# Altium schematic symbol library GRIPPER2009_Library.SchLib: 154 symbols
Pins are listed as number, name and electrical type; pins without a type are passive.

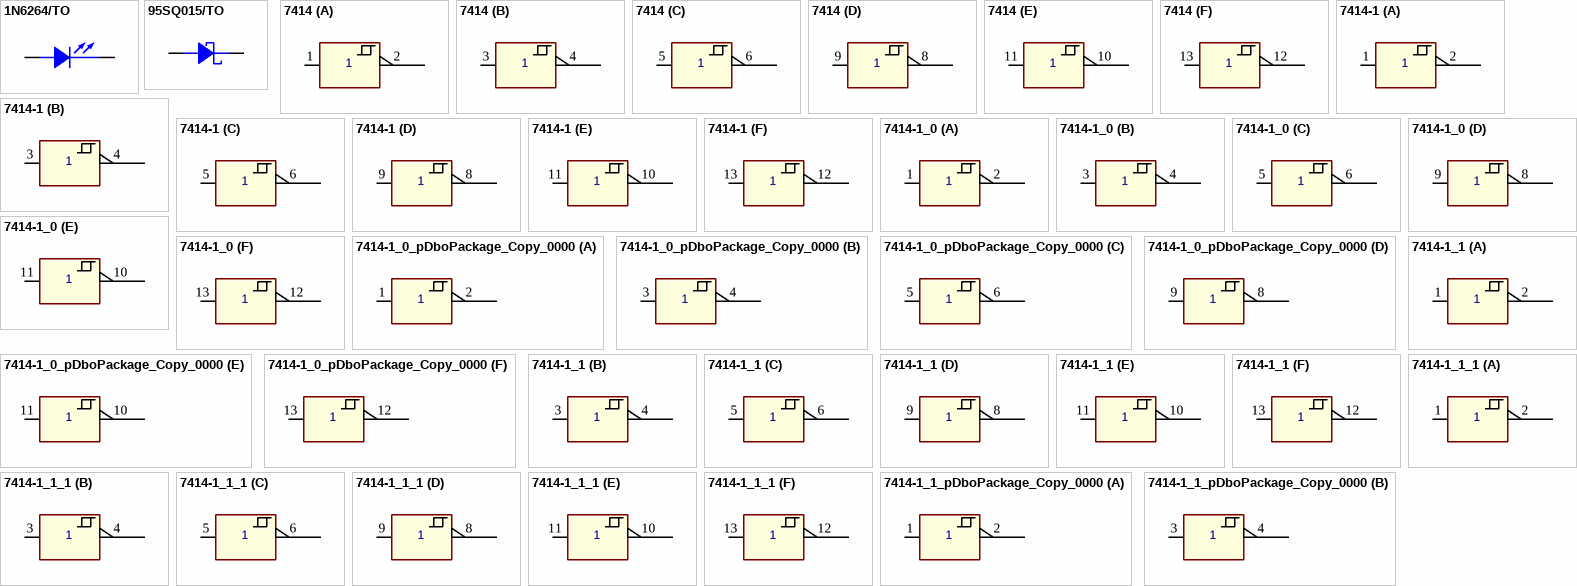
[diagram p0: symbols 1N6264/TO to 7414-1_1_pDboPackage_Copy_0000]

## 1N6264/TO
designator D?
pins: 1 CATHODE, 3 ANODE

## 95SQ015/TO
designator D?
pins: 1 ANODE, 2 CATHODE

## 7414
designator IC?
part A pins: 1 6A, 2 6Y, 7 GND (power) hidden to GND, 14 VCC (power) hidden to VCC
part B pins: 3 6A, 4 6Y, 7 GND (power) hidden to GND, 14 VCC (power) hidden to VCC
part C pins: 5 6A, 6 6Y, 7 GND (power) hidden to GND, 14 VCC (power) hidden to VCC
part D pins: 7 GND (power) hidden to GND, 8 6Y, 9 6A, 14 VCC (power) hidden to VCC
part E pins: 7 GND (power) hidden to GND, 10 6Y, 11 6A, 14 VCC (power) hidden to VCC
part F pins: 7 GND (power) hidden to GND, 12 6Y, 13 6A, 14 VCC (power) hidden to VCC

## 7414-1
designator IC?
part A pins: 1 6A, 2 6Y, 7 GND (power) hidden to GND, 14 VCC (power) hidden to VCC
part B pins: 3 6A, 4 6Y, 7 GND (power) hidden to GND, 14 VCC (power) hidden to VCC
part C pins: 5 6A, 6 6Y, 7 GND (power) hidden to GND, 14 VCC (power) hidden to VCC
part D pins: 7 GND (power) hidden to GND, 8 6Y, 9 6A, 14 VCC (power) hidden to VCC
part E pins: 7 GND (power) hidden to GND, 10 6Y, 11 6A, 14 VCC (power) hidden to VCC
part F pins: 7 GND (power) hidden to GND, 12 6Y, 13 6A, 14 VCC (power) hidden to VCC

## 7414-1_0
designator IC?
part A pins: 1 6A, 2 6Y, 7 GND (power) hidden to GND, 14 +5V (power) hidden to +5V
part B pins: 3 6A, 4 6Y, 7 GND (power) hidden to GND, 14 +5V (power) hidden to +5V
part C pins: 5 6A, 6 6Y, 7 GND (power) hidden to GND, 14 +5V (power) hidden to +5V
part D pins: 7 GND (power) hidden to GND, 8 6Y, 9 6A, 14 +5V (power) hidden to +5V
part E pins: 7 GND (power) hidden to GND, 10 6Y, 11 6A, 14 +5V (power) hidden to +5V
part F pins: 7 GND (power) hidden to GND, 12 6Y, 13 6A, 14 +5V (power) hidden to +5V

## 7414-1_0_pDboPackage_Copy_0000
designator IC?
part A pins: 1 6A, 2 6Y, 7 GND (power) hidden to GND, 14 VCC (power) hidden to VCC
part B pins: 3 6A, 4 6Y, 7 GND (power) hidden to GND, 14 VCC (power) hidden to VCC
part C pins: 5 6A, 6 6Y, 7 GND (power) hidden to GND, 14 VCC (power) hidden to VCC
part D pins: 7 GND (power) hidden to GND, 8 6Y, 9 6A, 14 VCC (power) hidden to VCC
part E pins: 7 GND (power) hidden to GND, 10 6Y, 11 6A, 14 VCC (power) hidden to VCC
part F pins: 7 GND (power) hidden to GND, 12 6Y, 13 6A, 14 VCC (power) hidden to VCC

## 7414-1_1
designator IC?
part A pins: 1 6A, 2 6Y, 7 GND (power) hidden to GND, 14 +5V (power) hidden to +5V
part B pins: 3 6A, 4 6Y, 7 GND (power) hidden to GND, 14 +5V (power) hidden to +5V
part C pins: 5 6A, 6 6Y, 7 GND (power) hidden to GND, 14 +5V (power) hidden to +5V
part D pins: 7 GND (power) hidden to GND, 8 6Y, 9 6A, 14 +5V (power) hidden to +5V
part E pins: 7 GND (power) hidden to GND, 10 6Y, 11 6A, 14 +5V (power) hidden to +5V
part F pins: 7 GND (power) hidden to GND, 12 6Y, 13 6A, 14 +5V (power) hidden to +5V

## 7414-1_1_1
designator IC?
part A pins: 1 6A, 2 6Y, 7 GND (power) hidden to GND, 14 +5V (power) hidden to +5V
part B pins: 3 6A, 4 6Y, 7 GND (power) hidden to GND, 14 +5V (power) hidden to +5V
part C pins: 5 6A, 6 6Y, 7 GND (power) hidden to GND, 14 +5V (power) hidden to +5V
part D pins: 7 GND (power) hidden to GND, 8 6Y, 9 6A, 14 +5V (power) hidden to +5V
part E pins: 7 GND (power) hidden to GND, 10 6Y, 11 6A, 14 +5V (power) hidden to +5V
part F pins: 7 GND (power) hidden to GND, 12 6Y, 13 6A, 14 +5V (power) hidden to +5V

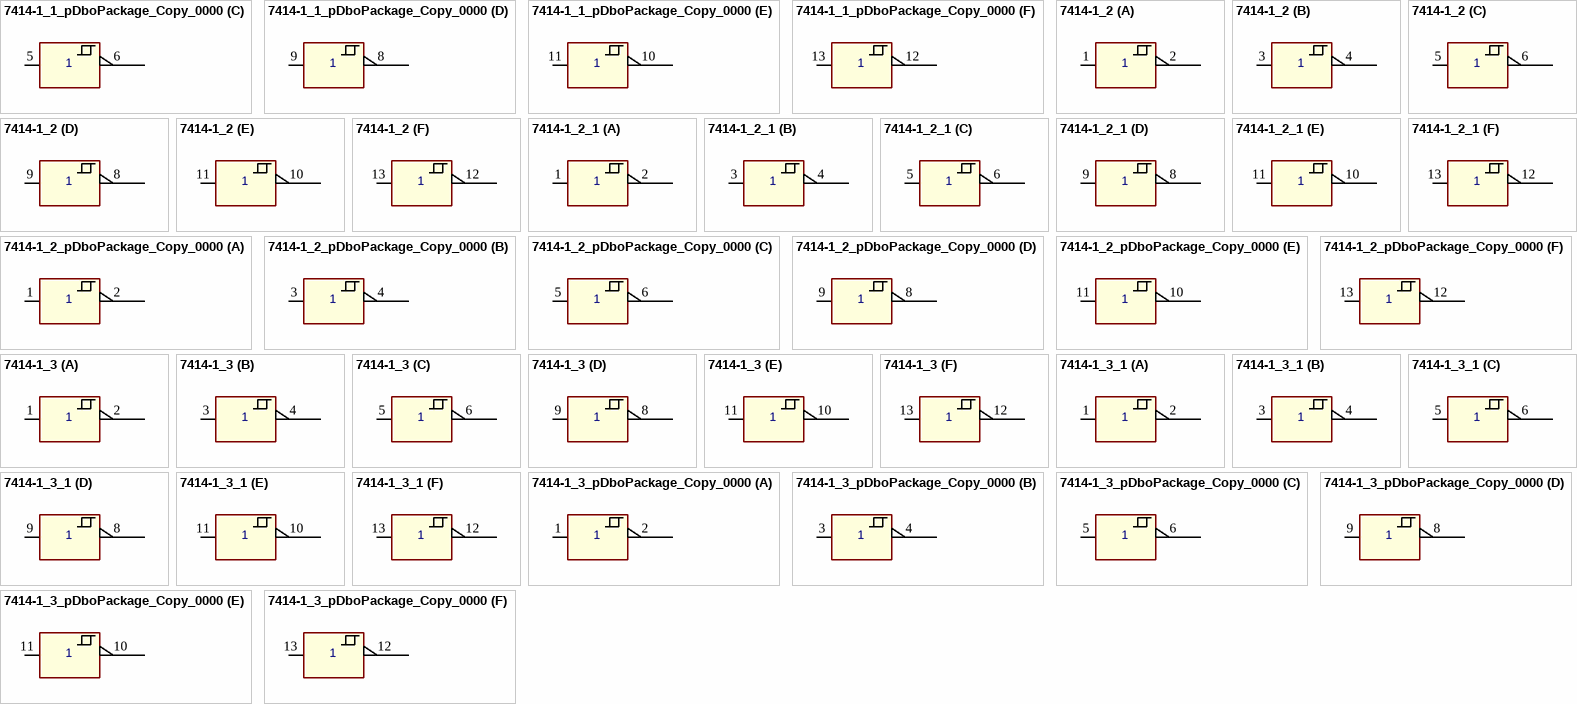
[diagram p1: symbols 7414-1_1_pDboPackage_Copy_0000 to 7414-1_3_pDboPackage_Copy_0000]

## 7414-1_1_pDboPackage_Copy_0000
designator IC?
part A pins: 1 6A, 2 6Y, 7 GND (power) hidden to GND, 14 VCC (power) hidden to VCC
part B pins: 3 6A, 4 6Y, 7 GND (power) hidden to GND, 14 VCC (power) hidden to VCC
part C pins: 5 6A, 6 6Y, 7 GND (power) hidden to GND, 14 VCC (power) hidden to VCC
part D pins: 7 GND (power) hidden to GND, 8 6Y, 9 6A, 14 VCC (power) hidden to VCC
part E pins: 7 GND (power) hidden to GND, 10 6Y, 11 6A, 14 VCC (power) hidden to VCC
part F pins: 7 GND (power) hidden to GND, 12 6Y, 13 6A, 14 VCC (power) hidden to VCC

## 7414-1_2
designator IC?
part A pins: 1 6A, 2 6Y, 7 GND (power) hidden to GND, 14 +5V (power) hidden to +5V
part B pins: 3 6A, 4 6Y, 7 GND (power) hidden to GND, 14 +5V (power) hidden to +5V
part C pins: 5 6A, 6 6Y, 7 GND (power) hidden to GND, 14 +5V (power) hidden to +5V
part D pins: 7 GND (power) hidden to GND, 8 6Y, 9 6A, 14 +5V (power) hidden to +5V
part E pins: 7 GND (power) hidden to GND, 10 6Y, 11 6A, 14 +5V (power) hidden to +5V
part F pins: 7 GND (power) hidden to GND, 12 6Y, 13 6A, 14 +5V (power) hidden to +5V

## 7414-1_2_1
designator IC?
part A pins: 1 6A, 2 6Y, 7 GND (power) hidden to GND, 14 +5V (power) hidden to +5V
part B pins: 3 6A, 4 6Y, 7 GND (power) hidden to GND, 14 +5V (power) hidden to +5V
part C pins: 5 6A, 6 6Y, 7 GND (power) hidden to GND, 14 +5V (power) hidden to +5V
part D pins: 7 GND (power) hidden to GND, 8 6Y, 9 6A, 14 +5V (power) hidden to +5V
part E pins: 7 GND (power) hidden to GND, 10 6Y, 11 6A, 14 +5V (power) hidden to +5V
part F pins: 7 GND (power) hidden to GND, 12 6Y, 13 6A, 14 +5V (power) hidden to +5V

## 7414-1_2_pDboPackage_Copy_0000
designator IC?
part A pins: 1 6A, 2 6Y, 7 GND (power) hidden to GND, 14 VCC (power) hidden to VCC
part B pins: 3 6A, 4 6Y, 7 GND (power) hidden to GND, 14 VCC (power) hidden to VCC
part C pins: 5 6A, 6 6Y, 7 GND (power) hidden to GND, 14 VCC (power) hidden to VCC
part D pins: 7 GND (power) hidden to GND, 8 6Y, 9 6A, 14 VCC (power) hidden to VCC
part E pins: 7 GND (power) hidden to GND, 10 6Y, 11 6A, 14 VCC (power) hidden to VCC
part F pins: 7 GND (power) hidden to GND, 12 6Y, 13 6A, 14 VCC (power) hidden to VCC

## 7414-1_3
designator IC?
part A pins: 1 6A, 2 6Y, 7 GND (power) hidden to GND, 14 +5V (power) hidden to +5V
part B pins: 3 6A, 4 6Y, 7 GND (power) hidden to GND, 14 +5V (power) hidden to +5V
part C pins: 5 6A, 6 6Y, 7 GND (power) hidden to GND, 14 +5V (power) hidden to +5V
part D pins: 7 GND (power) hidden to GND, 8 6Y, 9 6A, 14 +5V (power) hidden to +5V
part E pins: 7 GND (power) hidden to GND, 10 6Y, 11 6A, 14 +5V (power) hidden to +5V
part F pins: 7 GND (power) hidden to GND, 12 6Y, 13 6A, 14 +5V (power) hidden to +5V

## 7414-1_3_1
designator IC?
part A pins: 1 6A, 2 6Y, 7 GND (power) hidden to GND, 14 +5V (power) hidden to +5V
part B pins: 3 6A, 4 6Y, 7 GND (power) hidden to GND, 14 +5V (power) hidden to +5V
part C pins: 5 6A, 6 6Y, 7 GND (power) hidden to GND, 14 +5V (power) hidden to +5V
part D pins: 7 GND (power) hidden to GND, 8 6Y, 9 6A, 14 +5V (power) hidden to +5V
part E pins: 7 GND (power) hidden to GND, 10 6Y, 11 6A, 14 +5V (power) hidden to +5V
part F pins: 7 GND (power) hidden to GND, 12 6Y, 13 6A, 14 +5V (power) hidden to +5V

## 7414-1_3_pDboPackage_Copy_0000
designator IC?
part A pins: 1 6A, 2 6Y, 7 GND (power) hidden to GND, 14 VCC (power) hidden to VCC
part B pins: 3 6A, 4 6Y, 7 GND (power) hidden to GND, 14 VCC (power) hidden to VCC
part C pins: 5 6A, 6 6Y, 7 GND (power) hidden to GND, 14 VCC (power) hidden to VCC
part D pins: 7 GND (power) hidden to GND, 8 6Y, 9 6A, 14 VCC (power) hidden to VCC
part E pins: 7 GND (power) hidden to GND, 10 6Y, 11 6A, 14 VCC (power) hidden to VCC
part F pins: 7 GND (power) hidden to GND, 12 6Y, 13 6A, 14 VCC (power) hidden to VCC

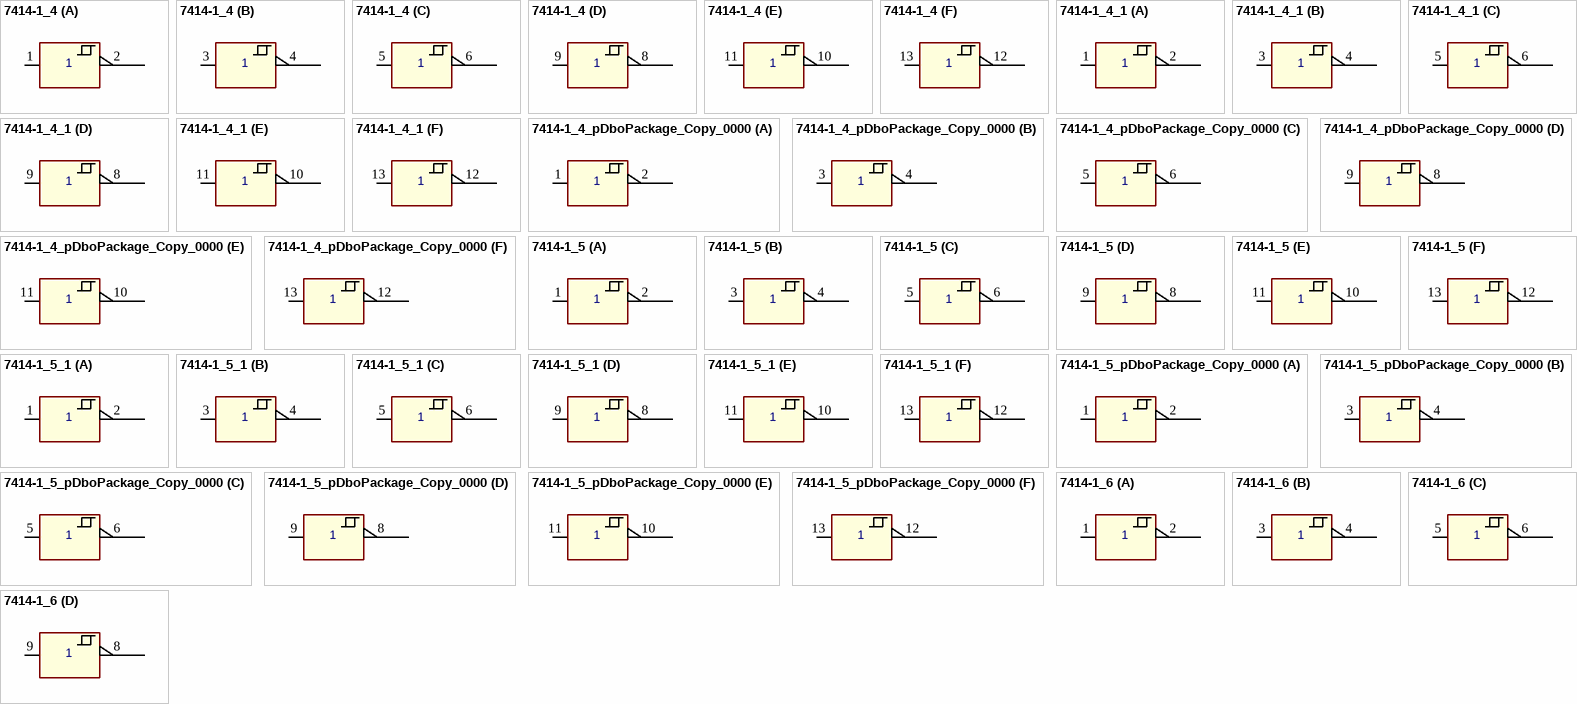
[diagram p2: symbols 7414-1_4 to 7414-1_6]

## 7414-1_4
designator IC?
part A pins: 1 6A, 2 6Y, 7 GND (power) hidden to GND, 14 +5V (power) hidden to +5V
part B pins: 3 6A, 4 6Y, 7 GND (power) hidden to GND, 14 +5V (power) hidden to +5V
part C pins: 5 6A, 6 6Y, 7 GND (power) hidden to GND, 14 +5V (power) hidden to +5V
part D pins: 7 GND (power) hidden to GND, 8 6Y, 9 6A, 14 +5V (power) hidden to +5V
part E pins: 7 GND (power) hidden to GND, 10 6Y, 11 6A, 14 +5V (power) hidden to +5V
part F pins: 7 GND (power) hidden to GND, 12 6Y, 13 6A, 14 +5V (power) hidden to +5V

## 7414-1_4_1
designator IC?
part A pins: 1 6A, 2 6Y, 7 GND (power) hidden to GND, 14 +5V (power) hidden to +5V
part B pins: 3 6A, 4 6Y, 7 GND (power) hidden to GND, 14 +5V (power) hidden to +5V
part C pins: 5 6A, 6 6Y, 7 GND (power) hidden to GND, 14 +5V (power) hidden to +5V
part D pins: 7 GND (power) hidden to GND, 8 6Y, 9 6A, 14 +5V (power) hidden to +5V
part E pins: 7 GND (power) hidden to GND, 10 6Y, 11 6A, 14 +5V (power) hidden to +5V
part F pins: 7 GND (power) hidden to GND, 12 6Y, 13 6A, 14 +5V (power) hidden to +5V

## 7414-1_4_pDboPackage_Copy_0000
designator IC?
part A pins: 1 6A, 2 6Y, 7 GND (power) hidden to GND, 14 VCC (power) hidden to VCC
part B pins: 3 6A, 4 6Y, 7 GND (power) hidden to GND, 14 VCC (power) hidden to VCC
part C pins: 5 6A, 6 6Y, 7 GND (power) hidden to GND, 14 VCC (power) hidden to VCC
part D pins: 7 GND (power) hidden to GND, 8 6Y, 9 6A, 14 VCC (power) hidden to VCC
part E pins: 7 GND (power) hidden to GND, 10 6Y, 11 6A, 14 VCC (power) hidden to VCC
part F pins: 7 GND (power) hidden to GND, 12 6Y, 13 6A, 14 VCC (power) hidden to VCC

## 7414-1_5
designator IC?
part A pins: 1 6A, 2 6Y, 7 GND (power) hidden to GND, 14 +5V (power) hidden to +5V
part B pins: 3 6A, 4 6Y, 7 GND (power) hidden to GND, 14 +5V (power) hidden to +5V
part C pins: 5 6A, 6 6Y, 7 GND (power) hidden to GND, 14 +5V (power) hidden to +5V
part D pins: 7 GND (power) hidden to GND, 8 6Y, 9 6A, 14 +5V (power) hidden to +5V
part E pins: 7 GND (power) hidden to GND, 10 6Y, 11 6A, 14 +5V (power) hidden to +5V
part F pins: 7 GND (power) hidden to GND, 12 6Y, 13 6A, 14 +5V (power) hidden to +5V

## 7414-1_5_1
designator IC?
part A pins: 1 6A, 2 6Y, 7 GND (power) hidden to GND, 14 +5V (power) hidden to +5V
part B pins: 3 6A, 4 6Y, 7 GND (power) hidden to GND, 14 +5V (power) hidden to +5V
part C pins: 5 6A, 6 6Y, 7 GND (power) hidden to GND, 14 +5V (power) hidden to +5V
part D pins: 7 GND (power) hidden to GND, 8 6Y, 9 6A, 14 +5V (power) hidden to +5V
part E pins: 7 GND (power) hidden to GND, 10 6Y, 11 6A, 14 +5V (power) hidden to +5V
part F pins: 7 GND (power) hidden to GND, 12 6Y, 13 6A, 14 +5V (power) hidden to +5V

## 7414-1_5_pDboPackage_Copy_0000
designator IC?
part A pins: 1 6A, 2 6Y, 7 GND (power) hidden to GND, 14 VCC (power) hidden to VCC
part B pins: 3 6A, 4 6Y, 7 GND (power) hidden to GND, 14 VCC (power) hidden to VCC
part C pins: 5 6A, 6 6Y, 7 GND (power) hidden to GND, 14 VCC (power) hidden to VCC
part D pins: 7 GND (power) hidden to GND, 8 6Y, 9 6A, 14 VCC (power) hidden to VCC
part E pins: 7 GND (power) hidden to GND, 10 6Y, 11 6A, 14 VCC (power) hidden to VCC
part F pins: 7 GND (power) hidden to GND, 12 6Y, 13 6A, 14 VCC (power) hidden to VCC

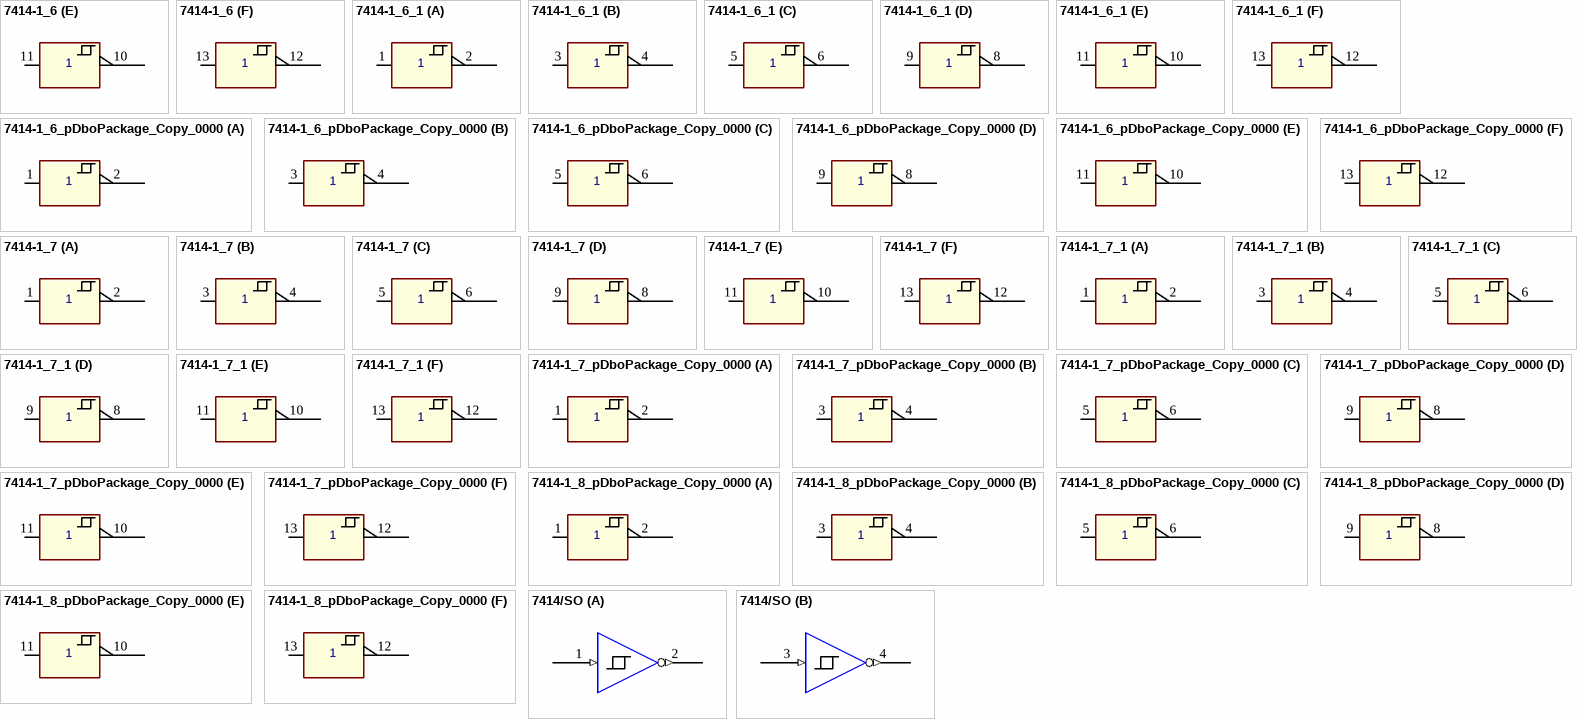
[diagram p3: symbols 7414-1_6 to 7414/SO]

## 7414-1_6
designator IC?
part A pins: 1 6A, 2 6Y, 7 GND (power) hidden to GND, 14 +5V (power) hidden to +5V
part B pins: 3 6A, 4 6Y, 7 GND (power) hidden to GND, 14 +5V (power) hidden to +5V
part C pins: 5 6A, 6 6Y, 7 GND (power) hidden to GND, 14 +5V (power) hidden to +5V
part D pins: 7 GND (power) hidden to GND, 8 6Y, 9 6A, 14 +5V (power) hidden to +5V
part E pins: 7 GND (power) hidden to GND, 10 6Y, 11 6A, 14 +5V (power) hidden to +5V
part F pins: 7 GND (power) hidden to GND, 12 6Y, 13 6A, 14 +5V (power) hidden to +5V

## 7414-1_6_1
designator IC?
part A pins: 1 6A, 2 6Y, 7 GND (power) hidden to GND, 14 +5V (power) hidden to +5V
part B pins: 3 6A, 4 6Y, 7 GND (power) hidden to GND, 14 +5V (power) hidden to +5V
part C pins: 5 6A, 6 6Y, 7 GND (power) hidden to GND, 14 +5V (power) hidden to +5V
part D pins: 7 GND (power) hidden to GND, 8 6Y, 9 6A, 14 +5V (power) hidden to +5V
part E pins: 7 GND (power) hidden to GND, 10 6Y, 11 6A, 14 +5V (power) hidden to +5V
part F pins: 7 GND (power) hidden to GND, 12 6Y, 13 6A, 14 +5V (power) hidden to +5V

## 7414-1_6_pDboPackage_Copy_0000
designator IC?
part A pins: 1 6A, 2 6Y, 7 GND (power) hidden to GND, 14 VCC (power) hidden to VCC
part B pins: 3 6A, 4 6Y, 7 GND (power) hidden to GND, 14 VCC (power) hidden to VCC
part C pins: 5 6A, 6 6Y, 7 GND (power) hidden to GND, 14 VCC (power) hidden to VCC
part D pins: 7 GND (power) hidden to GND, 8 6Y, 9 6A, 14 VCC (power) hidden to VCC
part E pins: 7 GND (power) hidden to GND, 10 6Y, 11 6A, 14 VCC (power) hidden to VCC
part F pins: 7 GND (power) hidden to GND, 12 6Y, 13 6A, 14 VCC (power) hidden to VCC

## 7414-1_7
designator IC?
part A pins: 1 6A, 2 6Y, 7 GND (power) hidden to GND, 14 +5V (power) hidden to +5V
part B pins: 3 6A, 4 6Y, 7 GND (power) hidden to GND, 14 +5V (power) hidden to +5V
part C pins: 5 6A, 6 6Y, 7 GND (power) hidden to GND, 14 +5V (power) hidden to +5V
part D pins: 7 GND (power) hidden to GND, 8 6Y, 9 6A, 14 +5V (power) hidden to +5V
part E pins: 7 GND (power) hidden to GND, 10 6Y, 11 6A, 14 +5V (power) hidden to +5V
part F pins: 7 GND (power) hidden to GND, 12 6Y, 13 6A, 14 +5V (power) hidden to +5V

## 7414-1_7_1
designator IC?
part A pins: 1 6A, 2 6Y, 7 GND (power) hidden to GND, 14 +5V (power) hidden to +5V
part B pins: 3 6A, 4 6Y, 7 GND (power) hidden to GND, 14 +5V (power) hidden to +5V
part C pins: 5 6A, 6 6Y, 7 GND (power) hidden to GND, 14 +5V (power) hidden to +5V
part D pins: 7 GND (power) hidden to GND, 8 6Y, 9 6A, 14 +5V (power) hidden to +5V
part E pins: 7 GND (power) hidden to GND, 10 6Y, 11 6A, 14 +5V (power) hidden to +5V
part F pins: 7 GND (power) hidden to GND, 12 6Y, 13 6A, 14 +5V (power) hidden to +5V

## 7414-1_7_pDboPackage_Copy_0000
designator IC?
part A pins: 1 6A, 2 6Y, 7 GND (power) hidden to GND, 14 +5V (power) hidden to +5V
part B pins: 3 6A, 4 6Y, 7 GND (power) hidden to GND, 14 +5V (power) hidden to +5V
part C pins: 5 6A, 6 6Y, 7 GND (power) hidden to GND, 14 +5V (power) hidden to +5V
part D pins: 7 GND (power) hidden to GND, 8 6Y, 9 6A, 14 +5V (power) hidden to +5V
part E pins: 7 GND (power) hidden to GND, 10 6Y, 11 6A, 14 +5V (power) hidden to +5V
part F pins: 7 GND (power) hidden to GND, 12 6Y, 13 6A, 14 +5V (power) hidden to +5V

## 7414-1_8_pDboPackage_Copy_0000
designator IC?
part A pins: 1 6A, 2 6Y, 7 GND (power) hidden to GND, 14 +5V (power) hidden to +5V
part B pins: 3 6A, 4 6Y, 7 GND (power) hidden to GND, 14 +5V (power) hidden to +5V
part C pins: 5 6A, 6 6Y, 7 GND (power) hidden to GND, 14 +5V (power) hidden to +5V
part D pins: 7 GND (power) hidden to GND, 8 6Y, 9 6A, 14 +5V (power) hidden to +5V
part E pins: 7 GND (power) hidden to GND, 10 6Y, 11 6A, 14 +5V (power) hidden to +5V
part F pins: 7 GND (power) hidden to GND, 12 6Y, 13 6A, 14 +5V (power) hidden to +5V

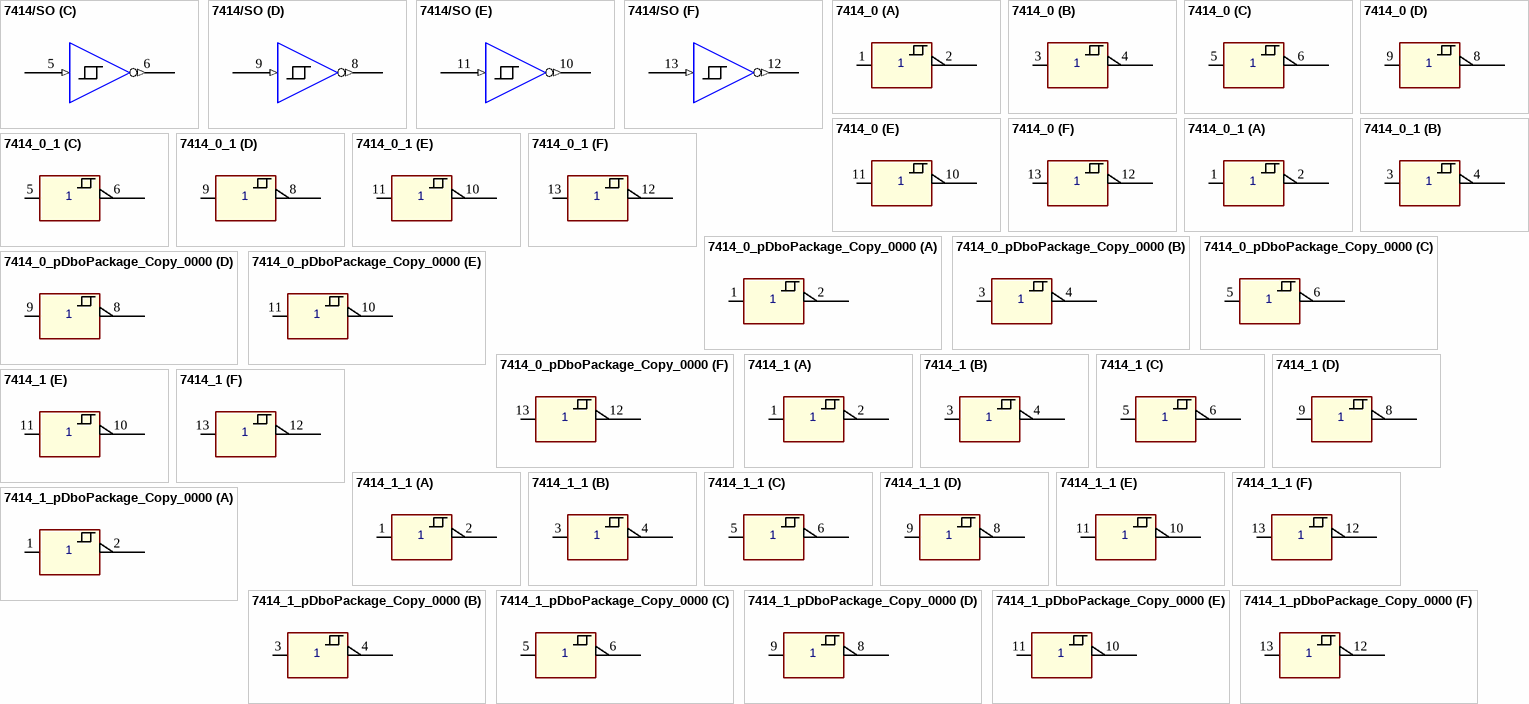
[diagram p4: symbols 7414/SO to 7414_1_pDboPackage_Copy_0000]

## 7414/SO
designator U?
part A pins: 1 A (in), 2 Y (out), 7 GND (power) hidden to GND, 14 VCC (power) hidden to VCC
part B pins: 3 A (in), 4 Y (out), 7 GND (power) hidden to GND, 14 VCC (power) hidden to VCC
part C pins: 5 A (in), 6 Y (out), 7 GND (power) hidden to GND, 14 VCC (power) hidden to VCC
part D pins: 7 GND (power) hidden to GND, 8 Y (out), 9 A (in), 14 VCC (power) hidden to VCC
part E pins: 7 GND (power) hidden to GND, 10 Y (out), 11 A (in), 14 VCC (power) hidden to VCC
part F pins: 7 GND (power) hidden to GND, 12 Y (out), 13 A (in), 14 VCC (power) hidden to VCC

## 7414_0
designator IC?
part A pins: 1 6A, 2 6Y, 7 GND (power) hidden to GND, 14 +3.3V (power) hidden to +3.3V
part B pins: 3 6A, 4 6Y, 7 GND (power) hidden to GND, 14 +3.3V (power) hidden to +3.3V
part C pins: 5 6A, 6 6Y, 7 GND (power) hidden to GND, 14 +3.3V (power) hidden to +3.3V
part D pins: 7 GND (power) hidden to GND, 8 6Y, 9 6A, 14 +3.3V (power) hidden to +3.3V
part E pins: 7 GND (power) hidden to GND, 10 6Y, 11 6A, 14 +3.3V (power) hidden to +3.3V
part F pins: 7 GND (power) hidden to GND, 12 6Y, 13 6A, 14 +3.3V (power) hidden to +3.3V

## 7414_0_1
designator IC?
part A pins: 1 6A, 2 6Y, 7 GND (power) hidden to GND, 14 +3.3V (power) hidden to +3.3V
part B pins: 3 6A, 4 6Y, 7 GND (power) hidden to GND, 14 +3.3V (power) hidden to +3.3V
part C pins: 5 6A, 6 6Y, 7 GND (power) hidden to GND, 14 +3.3V (power) hidden to +3.3V
part D pins: 7 GND (power) hidden to GND, 8 6Y, 9 6A, 14 +3.3V (power) hidden to +3.3V
part E pins: 7 GND (power) hidden to GND, 10 6Y, 11 6A, 14 +3.3V (power) hidden to +3.3V
part F pins: 7 GND (power) hidden to GND, 12 6Y, 13 6A, 14 +3.3V (power) hidden to +3.3V

## 7414_0_pDboPackage_Copy_0000
designator IC?
part A pins: 1 6A, 2 6Y, 7 GND (power) hidden to GND, 14 VCC (power) hidden to VCC
part B pins: 3 6A, 4 6Y, 7 GND (power) hidden to GND, 14 VCC (power) hidden to VCC
part C pins: 5 6A, 6 6Y, 7 GND (power) hidden to GND, 14 VCC (power) hidden to VCC
part D pins: 7 GND (power) hidden to GND, 8 6Y, 9 6A, 14 VCC (power) hidden to VCC
part E pins: 7 GND (power) hidden to GND, 10 6Y, 11 6A, 14 VCC (power) hidden to VCC
part F pins: 7 GND (power) hidden to GND, 12 6Y, 13 6A, 14 VCC (power) hidden to VCC

## 7414_1
designator IC?
part A pins: 1 6A, 2 6Y, 7 GND (power) hidden to GND, 14 +3.3V (power) hidden to +3.3V
part B pins: 3 6A, 4 6Y, 7 GND (power) hidden to GND, 14 +3.3V (power) hidden to +3.3V
part C pins: 5 6A, 6 6Y, 7 GND (power) hidden to GND, 14 +3.3V (power) hidden to +3.3V
part D pins: 7 GND (power) hidden to GND, 8 6Y, 9 6A, 14 +3.3V (power) hidden to +3.3V
part E pins: 7 GND (power) hidden to GND, 10 6Y, 11 6A, 14 +3.3V (power) hidden to +3.3V
part F pins: 7 GND (power) hidden to GND, 12 6Y, 13 6A, 14 +3.3V (power) hidden to +3.3V

## 7414_1_1
designator IC?
part A pins: 1 6A, 2 6Y, 7 GND (power) hidden to GND, 14 +3.3V (power) hidden to +3.3V
part B pins: 3 6A, 4 6Y, 7 GND (power) hidden to GND, 14 +3.3V (power) hidden to +3.3V
part C pins: 5 6A, 6 6Y, 7 GND (power) hidden to GND, 14 +3.3V (power) hidden to +3.3V
part D pins: 7 GND (power) hidden to GND, 8 6Y, 9 6A, 14 +3.3V (power) hidden to +3.3V
part E pins: 7 GND (power) hidden to GND, 10 6Y, 11 6A, 14 +3.3V (power) hidden to +3.3V
part F pins: 7 GND (power) hidden to GND, 12 6Y, 13 6A, 14 +3.3V (power) hidden to +3.3V

## 7414_1_pDboPackage_Copy_0000
designator IC?
part A pins: 1 6A, 2 6Y, 7 GND (power) hidden to GND, 14 VCC (power) hidden to VCC
part B pins: 3 6A, 4 6Y, 7 GND (power) hidden to GND, 14 VCC (power) hidden to VCC
part C pins: 5 6A, 6 6Y, 7 GND (power) hidden to GND, 14 VCC (power) hidden to VCC
part D pins: 7 GND (power) hidden to GND, 8 6Y, 9 6A, 14 VCC (power) hidden to VCC
part E pins: 7 GND (power) hidden to GND, 10 6Y, 11 6A, 14 VCC (power) hidden to VCC
part F pins: 7 GND (power) hidden to GND, 12 6Y, 13 6A, 14 VCC (power) hidden to VCC

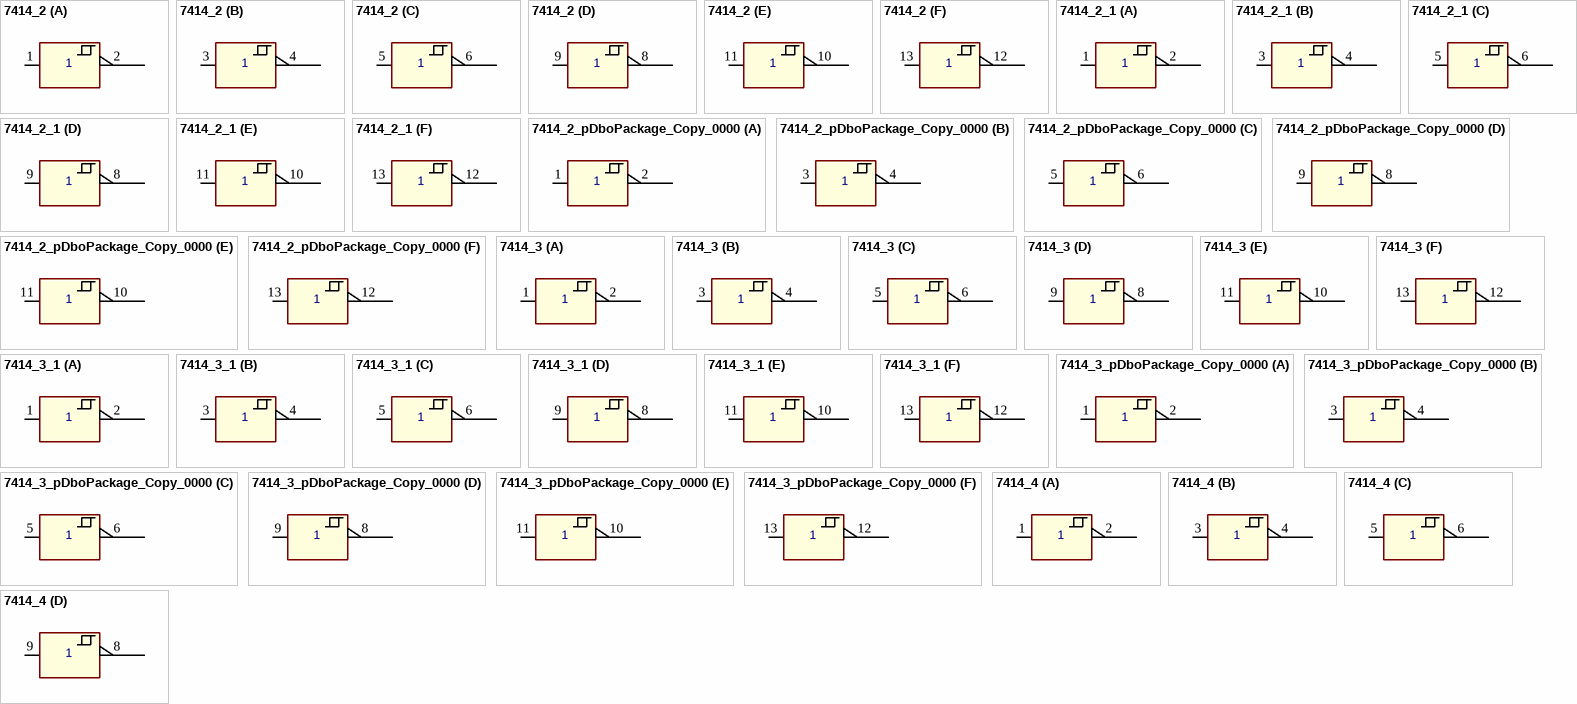
[diagram p5: symbols 7414_2 to 7414_4]

## 7414_2
designator IC?
part A pins: 1 6A, 2 6Y, 7 GND (power) hidden to GND, 14 +5V (power) hidden to +5V
part B pins: 3 6A, 4 6Y, 7 GND (power) hidden to GND, 14 +5V (power) hidden to +5V
part C pins: 5 6A, 6 6Y, 7 GND (power) hidden to GND, 14 +5V (power) hidden to +5V
part D pins: 7 GND (power) hidden to GND, 8 6Y, 9 6A, 14 +5V (power) hidden to +5V
part E pins: 7 GND (power) hidden to GND, 10 6Y, 11 6A, 14 +5V (power) hidden to +5V
part F pins: 7 GND (power) hidden to GND, 12 6Y, 13 6A, 14 +5V (power) hidden to +5V

## 7414_2_1
designator IC?
part A pins: 1 6A, 2 6Y, 7 GND (power) hidden to GND, 14 +5V (power) hidden to +5V
part B pins: 3 6A, 4 6Y, 7 GND (power) hidden to GND, 14 +5V (power) hidden to +5V
part C pins: 5 6A, 6 6Y, 7 GND (power) hidden to GND, 14 +5V (power) hidden to +5V
part D pins: 7 GND (power) hidden to GND, 8 6Y, 9 6A, 14 +5V (power) hidden to +5V
part E pins: 7 GND (power) hidden to GND, 10 6Y, 11 6A, 14 +5V (power) hidden to +5V
part F pins: 7 GND (power) hidden to GND, 12 6Y, 13 6A, 14 +5V (power) hidden to +5V

## 7414_2_pDboPackage_Copy_0000
designator IC?
part A pins: 1 6A, 2 6Y, 7 GND (power) hidden to GND, 14 VCC (power) hidden to VCC
part B pins: 3 6A, 4 6Y, 7 GND (power) hidden to GND, 14 VCC (power) hidden to VCC
part C pins: 5 6A, 6 6Y, 7 GND (power) hidden to GND, 14 VCC (power) hidden to VCC
part D pins: 7 GND (power) hidden to GND, 8 6Y, 9 6A, 14 VCC (power) hidden to VCC
part E pins: 7 GND (power) hidden to GND, 10 6Y, 11 6A, 14 VCC (power) hidden to VCC
part F pins: 7 GND (power) hidden to GND, 12 6Y, 13 6A, 14 VCC (power) hidden to VCC

## 7414_3
designator IC?
part A pins: 1 6A, 2 6Y, 7 GND (power) hidden to GND, 14 +5V (power) hidden to +5V
part B pins: 3 6A, 4 6Y, 7 GND (power) hidden to GND, 14 +5V (power) hidden to +5V
part C pins: 5 6A, 6 6Y, 7 GND (power) hidden to GND, 14 +5V (power) hidden to +5V
part D pins: 7 GND (power) hidden to GND, 8 6Y, 9 6A, 14 +5V (power) hidden to +5V
part E pins: 7 GND (power) hidden to GND, 10 6Y, 11 6A, 14 +5V (power) hidden to +5V
part F pins: 7 GND (power) hidden to GND, 12 6Y, 13 6A, 14 +5V (power) hidden to +5V

## 7414_3_1
designator IC?
part A pins: 1 6A, 2 6Y, 7 GND (power) hidden to GND, 14 +5V (power) hidden to +5V
part B pins: 3 6A, 4 6Y, 7 GND (power) hidden to GND, 14 +5V (power) hidden to +5V
part C pins: 5 6A, 6 6Y, 7 GND (power) hidden to GND, 14 +5V (power) hidden to +5V
part D pins: 7 GND (power) hidden to GND, 8 6Y, 9 6A, 14 +5V (power) hidden to +5V
part E pins: 7 GND (power) hidden to GND, 10 6Y, 11 6A, 14 +5V (power) hidden to +5V
part F pins: 7 GND (power) hidden to GND, 12 6Y, 13 6A, 14 +5V (power) hidden to +5V

## 7414_3_pDboPackage_Copy_0000
designator IC?
part A pins: 1 6A, 2 6Y, 7 GND (power) hidden to GND, 14 VCC (power) hidden to VCC
part B pins: 3 6A, 4 6Y, 7 GND (power) hidden to GND, 14 VCC (power) hidden to VCC
part C pins: 5 6A, 6 6Y, 7 GND (power) hidden to GND, 14 VCC (power) hidden to VCC
part D pins: 7 GND (power) hidden to GND, 8 6Y, 9 6A, 14 VCC (power) hidden to VCC
part E pins: 7 GND (power) hidden to GND, 10 6Y, 11 6A, 14 VCC (power) hidden to VCC
part F pins: 7 GND (power) hidden to GND, 12 6Y, 13 6A, 14 VCC (power) hidden to VCC

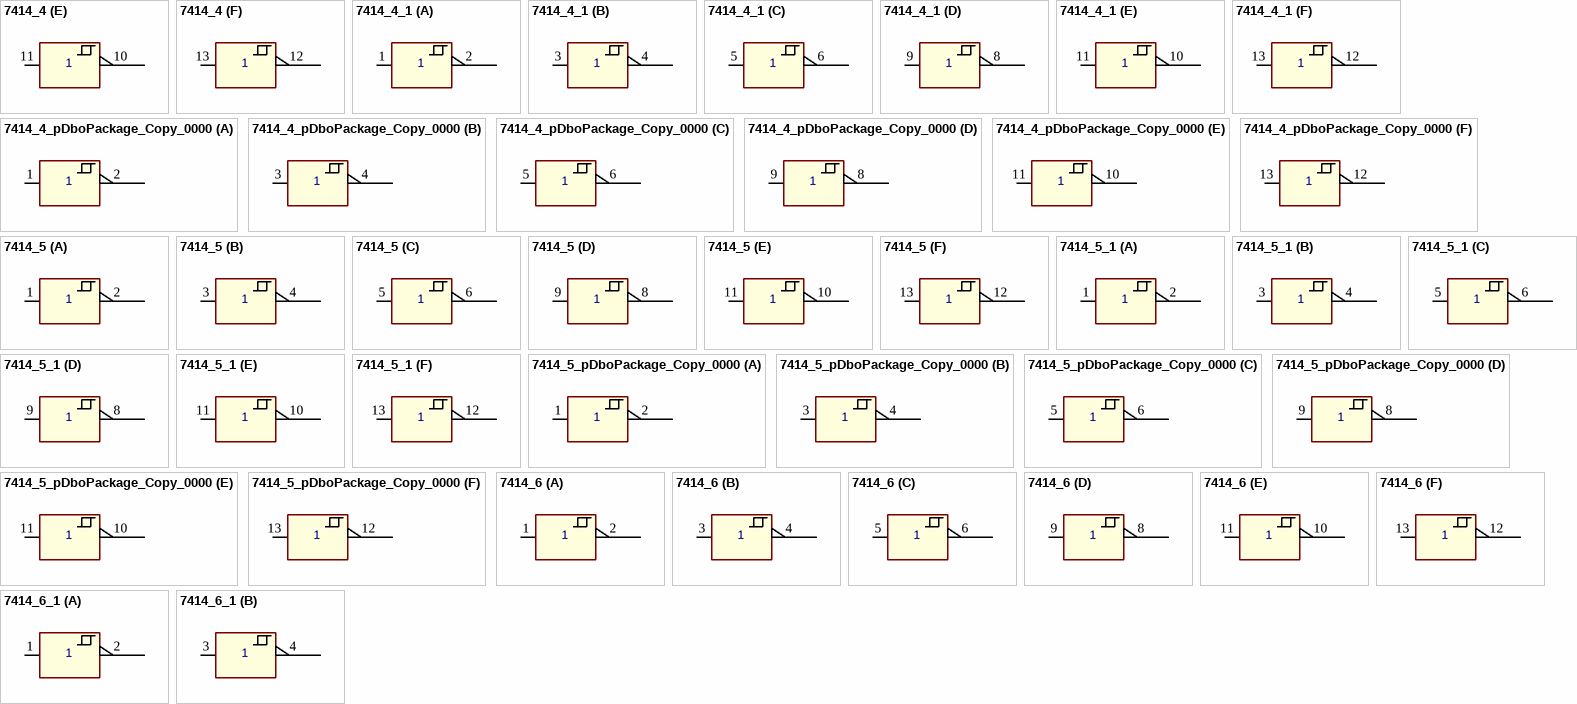
[diagram p6: symbols 7414_4 to 7414_6_1]

## 7414_4
designator IC?
part A pins: 1 6A, 2 6Y, 7 GND (power) hidden to GND, 14 +3.3V (power) hidden to +3.3V
part B pins: 3 6A, 4 6Y, 7 GND (power) hidden to GND, 14 +3.3V (power) hidden to +3.3V
part C pins: 5 6A, 6 6Y, 7 GND (power) hidden to GND, 14 +3.3V (power) hidden to +3.3V
part D pins: 7 GND (power) hidden to GND, 8 6Y, 9 6A, 14 +3.3V (power) hidden to +3.3V
part E pins: 7 GND (power) hidden to GND, 10 6Y, 11 6A, 14 +3.3V (power) hidden to +3.3V
part F pins: 7 GND (power) hidden to GND, 12 6Y, 13 6A, 14 +3.3V (power) hidden to +3.3V

## 7414_4_1
designator IC?
part A pins: 1 6A, 2 6Y, 7 GND (power) hidden to GND, 14 +3.3V (power) hidden to +3.3V
part B pins: 3 6A, 4 6Y, 7 GND (power) hidden to GND, 14 +3.3V (power) hidden to +3.3V
part C pins: 5 6A, 6 6Y, 7 GND (power) hidden to GND, 14 +3.3V (power) hidden to +3.3V
part D pins: 7 GND (power) hidden to GND, 8 6Y, 9 6A, 14 +3.3V (power) hidden to +3.3V
part E pins: 7 GND (power) hidden to GND, 10 6Y, 11 6A, 14 +3.3V (power) hidden to +3.3V
part F pins: 7 GND (power) hidden to GND, 12 6Y, 13 6A, 14 +3.3V (power) hidden to +3.3V

## 7414_4_pDboPackage_Copy_0000
designator IC?
part A pins: 1 6A, 2 6Y, 7 GND (power) hidden to GND, 14 +5V (power) hidden to +5V
part B pins: 3 6A, 4 6Y, 7 GND (power) hidden to GND, 14 +5V (power) hidden to +5V
part C pins: 5 6A, 6 6Y, 7 GND (power) hidden to GND, 14 +5V (power) hidden to +5V
part D pins: 7 GND (power) hidden to GND, 8 6Y, 9 6A, 14 +5V (power) hidden to +5V
part E pins: 7 GND (power) hidden to GND, 10 6Y, 11 6A, 14 +5V (power) hidden to +5V
part F pins: 7 GND (power) hidden to GND, 12 6Y, 13 6A, 14 +5V (power) hidden to +5V

## 7414_5
designator IC?
part A pins: 1 6A, 2 6Y, 7 GND (power) hidden to GND, 14 +3.3V (power) hidden to +3.3V
part B pins: 3 6A, 4 6Y, 7 GND (power) hidden to GND, 14 +3.3V (power) hidden to +3.3V
part C pins: 5 6A, 6 6Y, 7 GND (power) hidden to GND, 14 +3.3V (power) hidden to +3.3V
part D pins: 7 GND (power) hidden to GND, 8 6Y, 9 6A, 14 +3.3V (power) hidden to +3.3V
part E pins: 7 GND (power) hidden to GND, 10 6Y, 11 6A, 14 +3.3V (power) hidden to +3.3V
part F pins: 7 GND (power) hidden to GND, 12 6Y, 13 6A, 14 +3.3V (power) hidden to +3.3V

## 7414_5_1
designator IC?
part A pins: 1 6A, 2 6Y, 7 GND (power) hidden to GND, 14 +3.3V (power) hidden to +3.3V
part B pins: 3 6A, 4 6Y, 7 GND (power) hidden to GND, 14 +3.3V (power) hidden to +3.3V
part C pins: 5 6A, 6 6Y, 7 GND (power) hidden to GND, 14 +3.3V (power) hidden to +3.3V
part D pins: 7 GND (power) hidden to GND, 8 6Y, 9 6A, 14 +3.3V (power) hidden to +3.3V
part E pins: 7 GND (power) hidden to GND, 10 6Y, 11 6A, 14 +3.3V (power) hidden to +3.3V
part F pins: 7 GND (power) hidden to GND, 12 6Y, 13 6A, 14 +3.3V (power) hidden to +3.3V

## 7414_5_pDboPackage_Copy_0000
designator IC?
part A pins: 1 6A, 2 6Y, 7 GND (power) hidden to GND, 14 +5V (power) hidden to +5V
part B pins: 3 6A, 4 6Y, 7 GND (power) hidden to GND, 14 +5V (power) hidden to +5V
part C pins: 5 6A, 6 6Y, 7 GND (power) hidden to GND, 14 +5V (power) hidden to +5V
part D pins: 7 GND (power) hidden to GND, 8 6Y, 9 6A, 14 +5V (power) hidden to +5V
part E pins: 7 GND (power) hidden to GND, 10 6Y, 11 6A, 14 +5V (power) hidden to +5V
part F pins: 7 GND (power) hidden to GND, 12 6Y, 13 6A, 14 +5V (power) hidden to +5V

## 7414_6
designator IC?
part A pins: 1 6A, 2 6Y, 7 GND (power) hidden to GND, 14 +3.3V (power) hidden to +3.3V
part B pins: 3 6A, 4 6Y, 7 GND (power) hidden to GND, 14 +3.3V (power) hidden to +3.3V
part C pins: 5 6A, 6 6Y, 7 GND (power) hidden to GND, 14 +3.3V (power) hidden to +3.3V
part D pins: 7 GND (power) hidden to GND, 8 6Y, 9 6A, 14 +3.3V (power) hidden to +3.3V
part E pins: 7 GND (power) hidden to GND, 10 6Y, 11 6A, 14 +3.3V (power) hidden to +3.3V
part F pins: 7 GND (power) hidden to GND, 12 6Y, 13 6A, 14 +3.3V (power) hidden to +3.3V

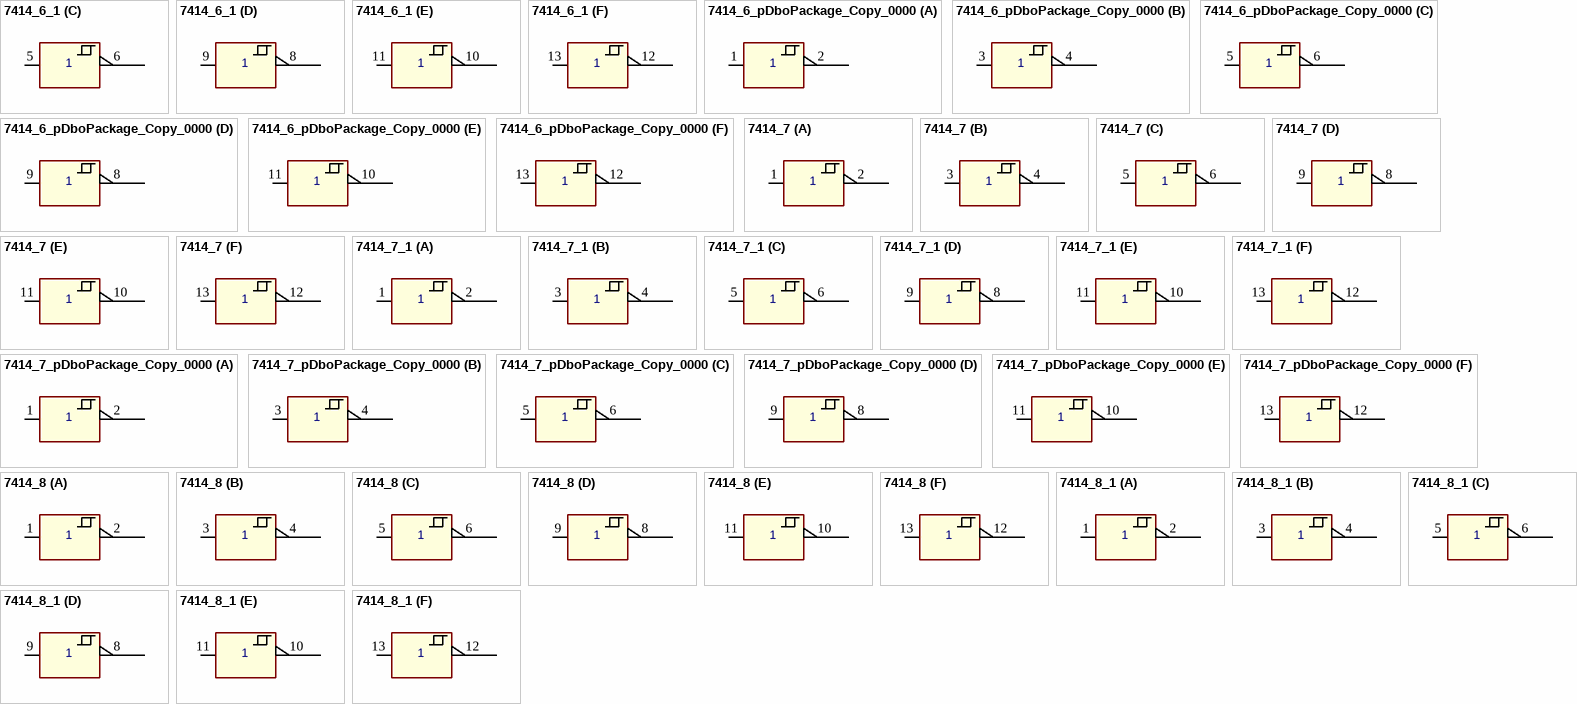
[diagram p7: symbols 7414_6_1 to 7414_8_1]

## 7414_6_1
designator IC?
part A pins: 1 6A, 2 6Y, 7 GND (power) hidden to GND, 14 +3.3V (power) hidden to +3.3V
part B pins: 3 6A, 4 6Y, 7 GND (power) hidden to GND, 14 +3.3V (power) hidden to +3.3V
part C pins: 5 6A, 6 6Y, 7 GND (power) hidden to GND, 14 +3.3V (power) hidden to +3.3V
part D pins: 7 GND (power) hidden to GND, 8 6Y, 9 6A, 14 +3.3V (power) hidden to +3.3V
part E pins: 7 GND (power) hidden to GND, 10 6Y, 11 6A, 14 +3.3V (power) hidden to +3.3V
part F pins: 7 GND (power) hidden to GND, 12 6Y, 13 6A, 14 +3.3V (power) hidden to +3.3V

## 7414_6_pDboPackage_Copy_0000
designator IC?
part A pins: 1 6A, 2 6Y, 7 GND (power) hidden to GND, 14 VCC (power) hidden to VCC
part B pins: 3 6A, 4 6Y, 7 GND (power) hidden to GND, 14 VCC (power) hidden to VCC
part C pins: 5 6A, 6 6Y, 7 GND (power) hidden to GND, 14 VCC (power) hidden to VCC
part D pins: 7 GND (power) hidden to GND, 8 6Y, 9 6A, 14 VCC (power) hidden to VCC
part E pins: 7 GND (power) hidden to GND, 10 6Y, 11 6A, 14 VCC (power) hidden to VCC
part F pins: 7 GND (power) hidden to GND, 12 6Y, 13 6A, 14 VCC (power) hidden to VCC

## 7414_7
designator IC?
part A pins: 1 6A, 2 6Y, 7 GND (power) hidden to GND, 14 +3.3V (power) hidden to +3.3V
part B pins: 3 6A, 4 6Y, 7 GND (power) hidden to GND, 14 +3.3V (power) hidden to +3.3V
part C pins: 5 6A, 6 6Y, 7 GND (power) hidden to GND, 14 +3.3V (power) hidden to +3.3V
part D pins: 7 GND (power) hidden to GND, 8 6Y, 9 6A, 14 +3.3V (power) hidden to +3.3V
part E pins: 7 GND (power) hidden to GND, 10 6Y, 11 6A, 14 +3.3V (power) hidden to +3.3V
part F pins: 7 GND (power) hidden to GND, 12 6Y, 13 6A, 14 +3.3V (power) hidden to +3.3V

## 7414_7_1
designator IC?
part A pins: 1 6A, 2 6Y, 7 GND (power) hidden to GND, 14 +3.3V (power) hidden to +3.3V
part B pins: 3 6A, 4 6Y, 7 GND (power) hidden to GND, 14 +3.3V (power) hidden to +3.3V
part C pins: 5 6A, 6 6Y, 7 GND (power) hidden to GND, 14 +3.3V (power) hidden to +3.3V
part D pins: 7 GND (power) hidden to GND, 8 6Y, 9 6A, 14 +3.3V (power) hidden to +3.3V
part E pins: 7 GND (power) hidden to GND, 10 6Y, 11 6A, 14 +3.3V (power) hidden to +3.3V
part F pins: 7 GND (power) hidden to GND, 12 6Y, 13 6A, 14 +3.3V (power) hidden to +3.3V

## 7414_7_pDboPackage_Copy_0000
designator IC?
part A pins: 1 6A, 2 6Y, 7 GND (power) hidden to GND, 14 VCC (power) hidden to VCC
part B pins: 3 6A, 4 6Y, 7 GND (power) hidden to GND, 14 VCC (power) hidden to VCC
part C pins: 5 6A, 6 6Y, 7 GND (power) hidden to GND, 14 VCC (power) hidden to VCC
part D pins: 7 GND (power) hidden to GND, 8 6Y, 9 6A, 14 VCC (power) hidden to VCC
part E pins: 7 GND (power) hidden to GND, 10 6Y, 11 6A, 14 VCC (power) hidden to VCC
part F pins: 7 GND (power) hidden to GND, 12 6Y, 13 6A, 14 VCC (power) hidden to VCC

## 7414_8
designator IC?
part A pins: 1 6A, 2 6Y, 7 GND (power) hidden to GND, 14 +3.3V (power) hidden to +3.3V
part B pins: 3 6A, 4 6Y, 7 GND (power) hidden to GND, 14 +3.3V (power) hidden to +3.3V
part C pins: 5 6A, 6 6Y, 7 GND (power) hidden to GND, 14 +3.3V (power) hidden to +3.3V
part D pins: 7 GND (power) hidden to GND, 8 6Y, 9 6A, 14 +3.3V (power) hidden to +3.3V
part E pins: 7 GND (power) hidden to GND, 10 6Y, 11 6A, 14 +3.3V (power) hidden to +3.3V
part F pins: 7 GND (power) hidden to GND, 12 6Y, 13 6A, 14 +3.3V (power) hidden to +3.3V

## 7414_8_1
designator IC?
part A pins: 1 6A, 2 6Y, 7 GND (power) hidden to GND, 14 +3.3V (power) hidden to +3.3V
part B pins: 3 6A, 4 6Y, 7 GND (power) hidden to GND, 14 +3.3V (power) hidden to +3.3V
part C pins: 5 6A, 6 6Y, 7 GND (power) hidden to GND, 14 +3.3V (power) hidden to +3.3V
part D pins: 7 GND (power) hidden to GND, 8 6Y, 9 6A, 14 +3.3V (power) hidden to +3.3V
part E pins: 7 GND (power) hidden to GND, 10 6Y, 11 6A, 14 +3.3V (power) hidden to +3.3V
part F pins: 7 GND (power) hidden to GND, 12 6Y, 13 6A, 14 +3.3V (power) hidden to +3.3V

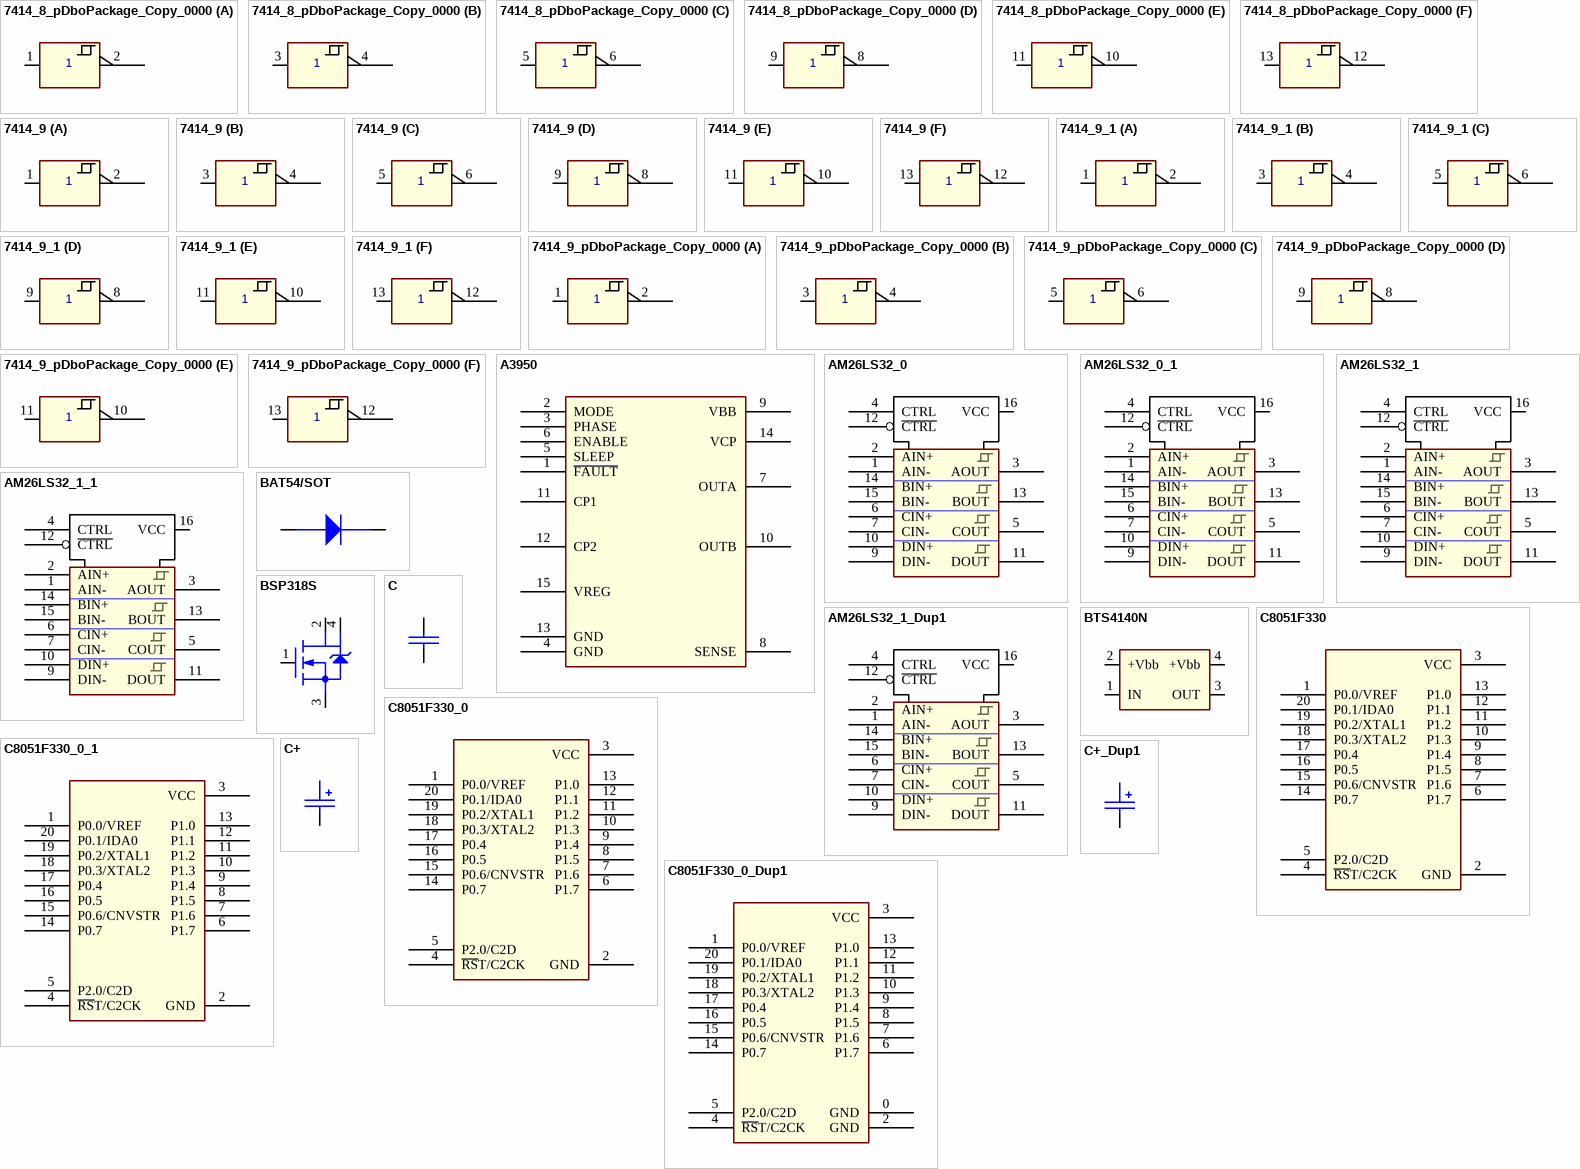
[diagram p8: symbols 7414_8_pDboPackage_Copy_0000 to C+_Dup1]

## 7414_8_pDboPackage_Copy_0000
designator IC?
part A pins: 1 6A, 2 6Y, 7 GND (power) hidden to GND, 14 VCC (power) hidden to VCC
part B pins: 3 6A, 4 6Y, 7 GND (power) hidden to GND, 14 VCC (power) hidden to VCC
part C pins: 5 6A, 6 6Y, 7 GND (power) hidden to GND, 14 VCC (power) hidden to VCC
part D pins: 7 GND (power) hidden to GND, 8 6Y, 9 6A, 14 VCC (power) hidden to VCC
part E pins: 7 GND (power) hidden to GND, 10 6Y, 11 6A, 14 VCC (power) hidden to VCC
part F pins: 7 GND (power) hidden to GND, 12 6Y, 13 6A, 14 VCC (power) hidden to VCC

## 7414_9
designator IC?
part A pins: 1 6A, 2 6Y, 7 GND (power) hidden to GND, 14 +3.3V (power) hidden to +3.3V
part B pins: 3 6A, 4 6Y, 7 GND (power) hidden to GND, 14 +3.3V (power) hidden to +3.3V
part C pins: 5 6A, 6 6Y, 7 GND (power) hidden to GND, 14 +3.3V (power) hidden to +3.3V
part D pins: 7 GND (power) hidden to GND, 8 6Y, 9 6A, 14 +3.3V (power) hidden to +3.3V
part E pins: 7 GND (power) hidden to GND, 10 6Y, 11 6A, 14 +3.3V (power) hidden to +3.3V
part F pins: 7 GND (power) hidden to GND, 12 6Y, 13 6A, 14 +3.3V (power) hidden to +3.3V

## 7414_9_1
designator IC?
part A pins: 1 6A, 2 6Y, 7 GND (power) hidden to GND, 14 +3.3V (power) hidden to +3.3V
part B pins: 3 6A, 4 6Y, 7 GND (power) hidden to GND, 14 +3.3V (power) hidden to +3.3V
part C pins: 5 6A, 6 6Y, 7 GND (power) hidden to GND, 14 +3.3V (power) hidden to +3.3V
part D pins: 7 GND (power) hidden to GND, 8 6Y, 9 6A, 14 +3.3V (power) hidden to +3.3V
part E pins: 7 GND (power) hidden to GND, 10 6Y, 11 6A, 14 +3.3V (power) hidden to +3.3V
part F pins: 7 GND (power) hidden to GND, 12 6Y, 13 6A, 14 +3.3V (power) hidden to +3.3V

## 7414_9_pDboPackage_Copy_0000
designator IC?
part A pins: 1 6A, 2 6Y, 7 GND (power) hidden to GND, 14 VCC (power) hidden to VCC
part B pins: 3 6A, 4 6Y, 7 GND (power) hidden to GND, 14 VCC (power) hidden to VCC
part C pins: 5 6A, 6 6Y, 7 GND (power) hidden to GND, 14 VCC (power) hidden to VCC
part D pins: 7 GND (power) hidden to GND, 8 6Y, 9 6A, 14 VCC (power) hidden to VCC
part E pins: 7 GND (power) hidden to GND, 10 6Y, 11 6A, 14 VCC (power) hidden to VCC
part F pins: 7 GND (power) hidden to GND, 12 6Y, 13 6A, 14 VCC (power) hidden to VCC

## A3950
designator U?
footprint HEIG/SM/TSSOP16
pins: 1 ~{FAULT}, 2 MODE, 3 PHASE, 4 GND, 5 SLEEP, 6 ENABLE, 7 OUTA, 8 SENSE, 9 VBB, 10 OUTB, 11 CP1, 12 CP2, 13 GND, 14 VCP, 15 VREG

## AM26LS32_0
designator IC?
pins: 1 AIN-, 2 AIN+, 3 AOUT, 4 CTRL, 5 COUT, 6 CIN+, 7 CIN-, 8 GND (power) hidden to GND, 9 DIN-, 10 DIN+, 11 DOUT, 12 ~{CTRL}, 13 BOUT, 14 BIN+, 15 BIN-, 16 VCC

## AM26LS32_0_1
designator IC?
pins: 1 AIN-, 2 AIN+, 3 AOUT, 4 CTRL, 5 COUT, 6 CIN+, 7 CIN-, 8 GND (power) hidden to GND, 9 DIN-, 10 DIN+, 11 DOUT, 12 ~{CTRL}, 13 BOUT, 14 BIN+, 15 BIN-, 16 VCC

## AM26LS32_1
designator IC?
pins: 1 AIN-, 2 AIN+, 3 AOUT, 4 CTRL, 5 COUT, 6 CIN+, 7 CIN-, 8 GND (power) hidden to GND, 9 DIN-, 10 DIN+, 11 DOUT, 12 ~{CTRL}, 13 BOUT, 14 BIN+, 15 BIN-, 16 VCC

## AM26LS32_1_1
designator IC?
pins: 1 AIN-, 2 AIN+, 3 AOUT, 4 CTRL, 5 COUT, 6 CIN+, 7 CIN-, 8 GND (power) hidden to GND, 9 DIN-, 10 DIN+, 11 DOUT, 12 ~{CTRL}, 13 BOUT, 14 BIN+, 15 BIN-, 16 VCC

## AM26LS32_1_Dup1
designator IC?
pins: 1 AIN-, 2 AIN+, 3 AOUT, 4 CTRL, 5 COUT, 6 CIN+, 7 CIN-, 8 GND (power) hidden to GND, 9 DIN-, 10 DIN+, 11 DOUT, 12 ~{CTRL}, 13 BOUT, 14 BIN+, 15 BIN-, 16 VCC

## BAT54/SOT
designator D?
pins: 1 ANODE, 3 CATHODE

## BSP318S
designator T?
footprint HEIG/SM/SOT223
pins: 1 G, 2 D, 3 S, 4 D

## BTS4140N
designator IC?
footprint SOT-223
pins: 1 IN, 2 +Vbb, 3 OUT, 4 +Vbb

## C
designator C?
footprint SM/C_0805
pins: 1, 2

## C8051F330
designator IC?
footprint F300
pins: 1 P0.0/VREF, 2 GND, 3 VCC, 4 ~{RS}T/C2CK, 5 P2.0/C2D, 6 P1.7, 7 P1.6, 8 P1.5, 9 P1.4, 10 P1.3, 11 P1.2, 12 P1.1, 13 P1.0, 14 P0.7, 15 P0.6/CNVSTR, 16 P0.5, 17 P0.4, 18 P0.3/XTAL2, 19 P0.2/XTAL1, 20 P0.1/IDA0

## C8051F330_0
designator IC?
footprint F300
pins: 1 P0.0/VREF, 2 GND, 3 VCC, 4 ~{RS}T/C2CK, 5 P2.0/C2D, 6 P1.7, 7 P1.6, 8 P1.5, 9 P1.4, 10 P1.3, 11 P1.2, 12 P1.1, 13 P1.0, 14 P0.7, 15 P0.6/CNVSTR, 16 P0.5, 17 P0.4, 18 P0.3/XTAL2, 19 P0.2/XTAL1, 20 P0.1/IDA0

## C8051F330_0_1
designator IC?
footprint F300
pins: 1 P0.0/VREF, 2 GND, 3 VCC, 4 ~{RS}T/C2CK, 5 P2.0/C2D, 6 P1.7, 7 P1.6, 8 P1.5, 9 P1.4, 10 P1.3, 11 P1.2, 12 P1.1, 13 P1.0, 14 P0.7, 15 P0.6/CNVSTR, 16 P0.5, 17 P0.4, 18 P0.3/XTAL2, 19 P0.2/XTAL1, 20 P0.1/IDA0

## C8051F330_0_Dup1
designator IC?
footprint F300
pins: 0 GND, 1 P0.0/VREF, 2 GND, 3 VCC, 4 ~{RS}T/C2CK, 5 P2.0/C2D, 6 P1.7, 7 P1.6, 8 P1.5, 9 P1.4, 10 P1.3, 11 P1.2, 12 P1.1, 13 P1.0, 14 P0.7, 15 P0.6/CNVSTR, 16 P0.5, 17 P0.4, 18 P0.3/XTAL2, 19 P0.2/XTAL1, 20 P0.1/IDA0

## C+
designator C?
footprint SM/C_0805
pins: 1, 2

## C+_Dup1
designator C?
footprint SM/C_0805
pins: 1, 2

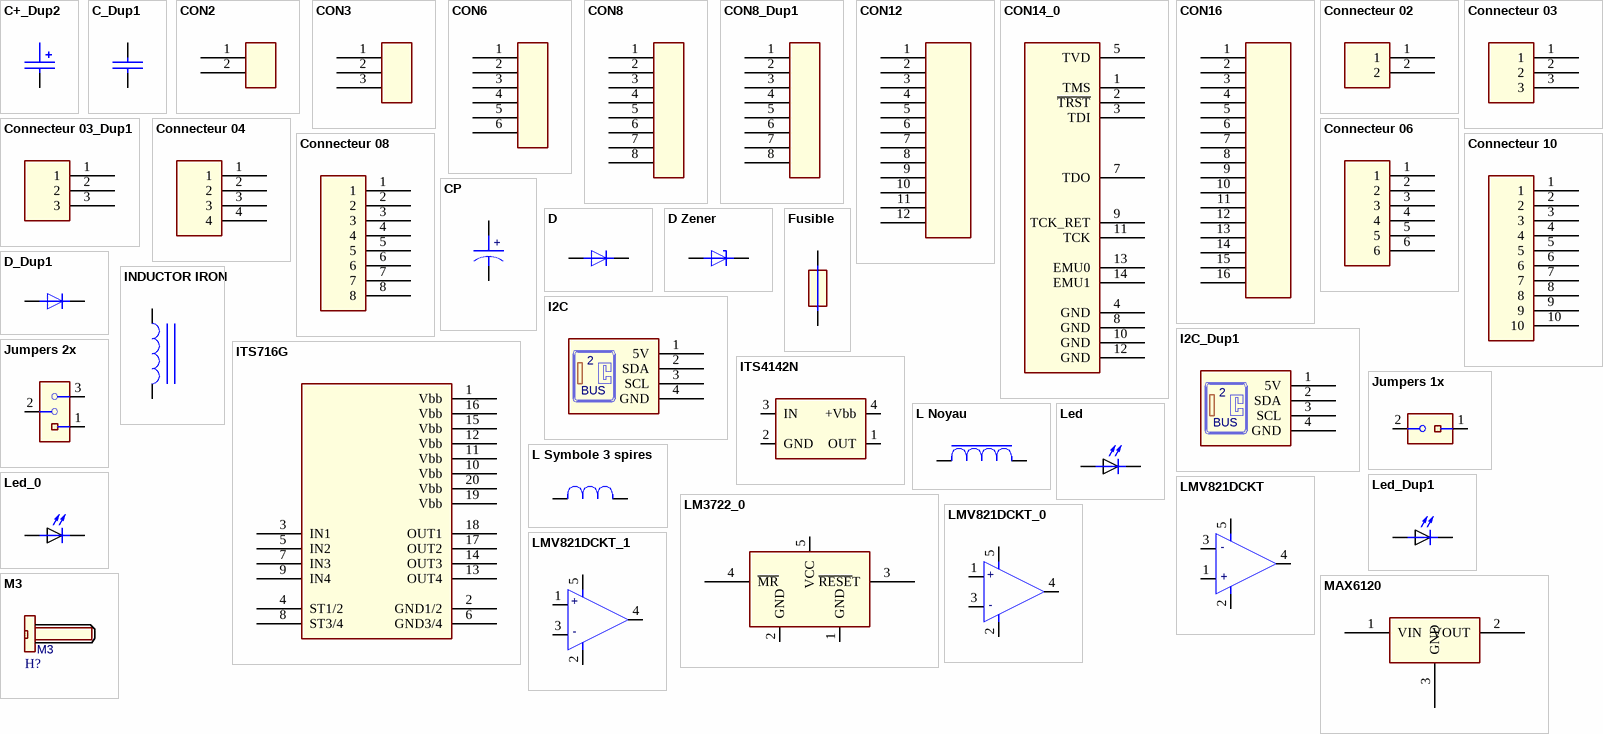
[diagram p9: symbols C+_Dup2 to MAX6120]

## C+_Dup2
designator C?
footprint SM/C_0805
pins: 1, 2

## C_Dup1
designator C?
footprint SM/C_0805
pins: 1, 2

## CON2
designator J?
pins: 1, 2

## CON3
designator J?
pins: 1, 2, 3

## CON6
designator J?
pins: 1, 2, 3, 4, 5, 6

## CON8
designator J?
pins: 1, 2, 3, 4, 5, 6, 7, 8

## CON8_Dup1
designator J?
pins: 1, 2, 3, 4, 5, 6, 7, 8

## CON12
designator J?
pins: 1, 2, 3, 4, 5, 6, 7, 8, 9, 10, 11, 12

## CON14_0
designator J?
pins: 1 TMS, 2 ~{TRST}, 3 TDI, 4 GND, 5 TVD, 7 TDO, 8 GND, 9 TCK_RET, 10 GND, 11 TCK, 12 GND, 13 EMU0, 14 EMU1

## CON16
designator J?
pins: 1, 2, 3, 4, 5, 6, 7, 8, 9, 10, 11, 12, 13, 14, 15, 16

## Connecteur 02
designator X?
pins: 1, 2

## Connecteur 03
designator X?
pins: 1, 2, 3

## Connecteur 03_Dup1
designator X?
pins: 1, 2, 3

## Connecteur 04
designator X?
pins: 1, 2, 3, 4

## Connecteur 06
designator X?
pins: 1, 2, 3, 4, 5, 6

## Connecteur 08
designator X?
pins: 1, 2, 3, 4, 5, 6, 7, 8

## Connecteur 10
designator X?
pins: 1, 2, 3, 4, 5, 6, 7, 8, 9, 10

## CP
designator C?
pins: 1, 2
text: +

## D
designator D?
pins: 1 a, 2 k

## D Zener
designator D?
pins: 1 k, 2 a

## D_Dup1
designator D?
pins: 1 a, 2 k

## Fusible
designator F?
pins: 1, 2

## I2C
designator X?
pins: 1 5V, 2 SDA, 3 SCL, 4 GND
text: BUS

## I2C_Dup1
designator X?
pins: 1 5V, 2 SDA, 3 SCL, 4 GND
text: BUS

## INDUCTOR IRON
designator L?
pins: 1, 2

## ITS716G
designator U?
pins: 1 Vbb, 2 GND1/2, 3 IN1, 4 ST1/2, 5 IN2, 6 GND3/4, 7 IN3, 8 ST3/4, 9 IN4, 10 Vbb, 11 Vbb, 12 Vbb, 13 OUT4, 14 OUT3, 15 Vbb, 16 Vbb, 17 OUT2, 18 OUT1, 19 Vbb, 20 Vbb

## ITS4142N
designator IC?
footprint HEIG/SM/SOT223
pins: 1 OUT, 2 GND, 3 IN, 4 +Vbb

## Jumpers 1x
designator JP?
footprint JP2
pins: 1, 2

## Jumpers 2x
designator JP?
footprint JP2
pins: 1, 2, 3

## L Noyau
designator L?
pins: 1, 2

## L Symbole 3 spires
designator L?
pins: 1, 2

## Led
designator D?
footprint LED 5
pins: 1, 2

## Led_0
designator D?
footprint LED 5
pins: 1, 2

## Led_Dup1
designator D?
footprint LED 5
pins: 1, 2

## LM3722_0
designator IC?
pins: 1 GND, 2 GND, 3 ~{RESE}T, 4 ~{MR}, 5 VCC (power)

## LMV821DCKT
designator IC?
pins: 1 IN+, 2 GND, 3 IN-, 4 out, 5 VCC
text: -; +

## LMV821DCKT_0
designator IC?
pins: 1 IN+, 2 GND, 3 IN-, 4 out, 5 VCC
text: +; -

## LMV821DCKT_1
designator IC?
pins: 1 IN+, 2 GND, 3 IN-, 4 out, 5 VCC
text: +; -

## M3
designator H?  (value not drawn)
footprint M3
pins: 1 EARTH

## MAX6120
designator IC?
footprint SOT23_123
pins: 1 VIN, 2 VOUT, 3 GND

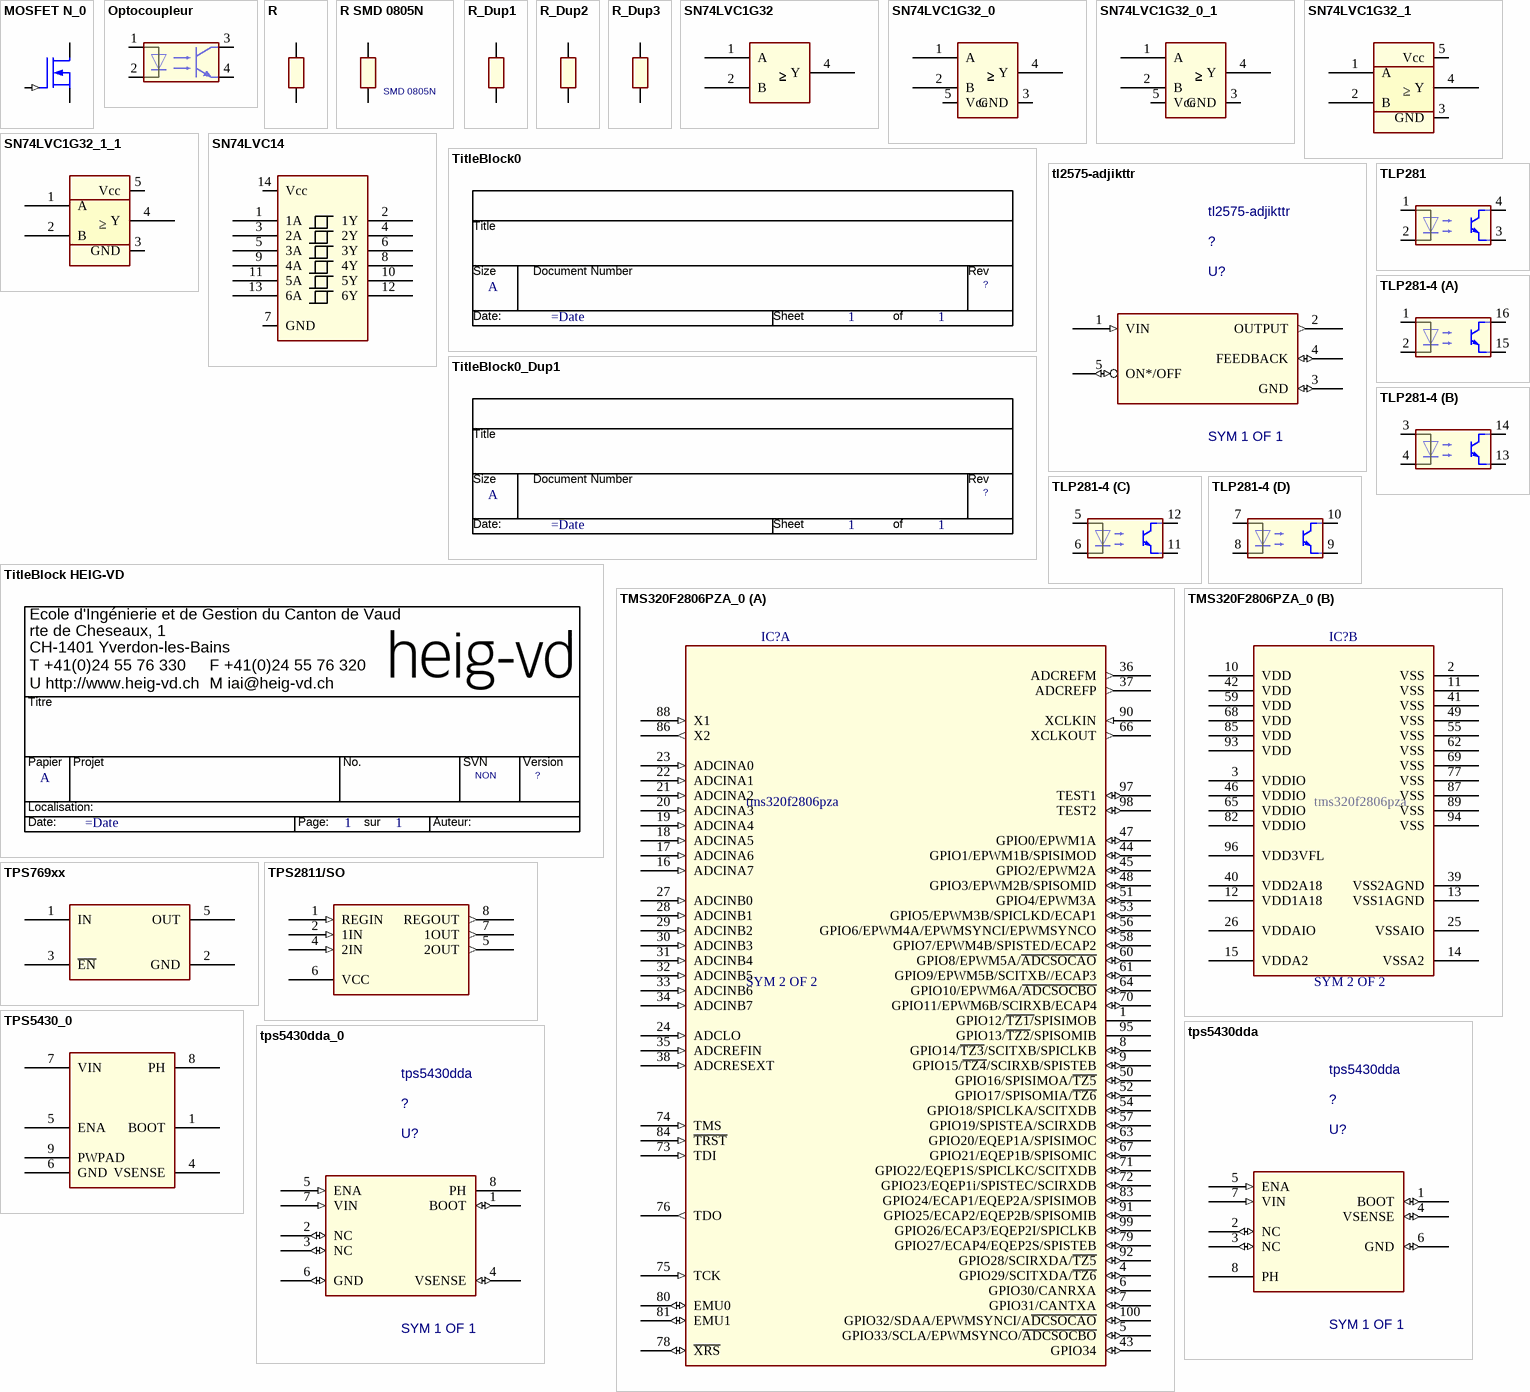
[diagram p10: symbols MOSFET N_0 to tps5430dda_0]

## MOSFET N_0
designator Q?
pins: 1 GATE (in), 2 SOURCE, 3 DRAIN

## Optocoupleur
designator IC?
pins: 1, 2, 3, 4

## R
designator R?
footprint R400
pins: 1, 2

## R SMD 0805N
designator R?  Package: SMD 0805N
footprint SM/R_0805
pins: 1, 2

## R_Dup1
designator R?
footprint R400
pins: 1, 2

## R_Dup2
designator R?
footprint R400
pins: 1, 2

## R_Dup3
designator R?
footprint R400
pins: 1, 2

## SN74LVC1G32
designator U?
pins: 1 A, 2 B, 3 GND (power) hidden, 4 Y, 5 Vcc (power) hidden

## SN74LVC1G32_0
designator U?
pins: 1 A, 2 B, 3 GND (power), 4 Y, 5 Vcc (power)

## SN74LVC1G32_0_1
designator U?
pins: 1 A, 2 B, 3 GND (power), 4 Y, 5 Vcc (power)

## SN74LVC1G32_1
designator U?
pins: 1 A, 2 B, 3 GND (power), 4 Y, 5 Vcc (power)

## SN74LVC1G32_1_1
designator U?
pins: 1 A, 2 B, 3 GND (power), 4 Y, 5 Vcc (power)

## SN74LVC14
designator U?
pins: 1 1A, 2 1Y, 3 2A, 4 2Y, 5 3A, 6 3Y, 7 GND (power), 8 4Y, 9 4A, 10 5Y, 11 5A, 12 6Y, 13 6A, 14 Vcc (power)

## TitleBlock0
designator *  Page Count: 1  Page Size: A  (hidden comment: *)  (graphical)
Page Number: 1; RevCode: ?; Page Create Date: March  8, 1995; Page Modify Date: =Date
text: Title; Size; Document Number; Rev; Date:; Sheet; of

## TitleBlock0_Dup1
designator *  Page Size: A  Page Number: 1  (hidden comment: *)  (graphical)
Page Create Date: March  8, 1995; RevCode: ?; Page Count: 1; Page Modify Date: =Date
text: Title; Size; Document Number; Rev; Date:; Sheet; of

## TitleBlock HEIG-VD
designator *  Page Size: A  Page Number: 1  SVN: NON  (hidden comment: *)  (graphical)
OrgName: Institut d'automatisation Industrielle; Page Create Date: March  8, 1995; RevCode: ?; Page Count: 1; Page Modify Date: =Date
text: Ecole d'Ingénierie et de Gestion du Canton de Vaud; rte de Cheseaux, 1; CH-1401 Yverdon-les-Bains; T +41(0)24 55 76 330; F +41(0)24 55 76 320; U http://www.heig-vd.ch; M iai@heig-vd.ch; Titre; Papier; Projet; No.; SVN; Version; Localisation:; Date:; Page:; sur; Auteur:

## tl2575-adjikttr
designator U?  SymName: tl2575-adjikttr  SlotXofY: SYM 1 OF 1  (hidden comment: *)
RefLocation: ?; BoardLocation: ?; Instance: ?
pins: 1 VIN (in), 2 OUTPUT (out), 3 GND (io), 4 FEEDBACK (io), 5 ON*/OFF (io)

## TLP281
designator U?
pins: 1 A, 2 C, 3 E, 4 COL

## TLP281-4
designator U?
part A pins: 1 A, 2 C, 15 E, 16 COL
part B pins: 3 A, 4 C, 13 E, 14 COL
part C pins: 5 A, 6 C, 11 E, 12 COL
part D pins: 7 A, 8 C, 9 E, 10 COL

## TMS320F2806PZA_0
designator IC?  SlotXofY: SYM 2 OF 2  SymName: tms320f2806pza  (hidden comment: *)
Instance: ?; BoardLocation: ?; RefLocation: ?
part A pins: 1 GPIO12/~{TZ1/}SPISIMOB, 4 GPIO29/SCITXDA/~{TZ6} (io), 5 GPIO33/SCLA/EPWMSYNCO/~{ADCSOCBO} (io), 6 GPIO30/CANRXA (io), 7 GPIO31/CANTXA (io), 8 GPIO14/~{TZ3}/SCITXB/SPICLKB (io), 9 GPIO15/~{TZ4}/SCIRXB/SPISTEB (io), 16 ADCINA7 (in), 17 ADCINA6 (in), 18 ADCINA5 (in), 19 ADCINA4 (in), 20 ADCINA3 (in), 21 ADCINA2 (in), 22 ADCINA1 (in), 23 ADCINA0 (in), 24 ADCLO (in), 27 ADCINB0 (in), 28 ADCINB1 (in), 29 ADCINB2 (in), 30 ADCINB3 (in), 31 ADCINB4 (in), 32 ADCINB5 (in), 33 ADCINB6 (in), 34 ADCINB7 (in), 35 ADCREFIN (in), 36 ADCREFM (out), 37 ADCREFP (out), 38 ADCRESEXT (in), 43 GPIO34 (io), 44 GPIO1/EPWM1B/SPISIMOD (io), 45 GPIO2/EPWM2A (io), 47 GPIO0/EPWM1A (io), 48 GPIO3/EPWM2B/SPISOMID (io), 50 GPIO16/SPISIMOA/~{TZ5} (io), 51 GPIO4/EPWM3A (io), 52 GPIO17/SPISOMIA/~{TZ6} (io), 53 GPIO5/EPWM3B/SPICLKD/ECAP1 (io), 54 GPIO18/SPICLKA/SCITXDB (io), 56 GPIO6/EPWM4A/EPWMSYNCI/EPWMSYNCO (io), 57 GPIO19/SPISTEA/SCIRXDB (io), 58 GPIO7/EPWM4B/SPISTED/ECAP2 (io), 60 GPIO8/EPWM5A/~{ADCSOCAO} (io), 61 GPIO9/EPWM5B/SCITXB//ECAP3 (io), 63 GPIO20/EQEP1A/SPISIMOC (io), 64 GPIO10/EPWM6A/~{ADCSOCBO} (io), 66 XCLKOUT (out), 67 GPIO21/EQEP1B/SPISOMIC (io), 70 GPIO11/EPWM6B/SCIRXB/ECAP4 (io), 71 GPIO22/EQEP1S/SPICLKC/SCITXDB (io), 72 GPIO23/EQEP1i/SPISTEC/SCIRXDB (io), 73 TDI (in), 74 TMS (in), 75 TCK (in), 76 TDO (out), 78 ~{XRS} (io), 79 GPIO27/ECAP4/EQEP2S/SPISTEB (io), 80 EMU0 (io), 81 EMU1 (io), 83 GPIO24/ECAP1/EQEP2A/SPISIMOB (io), 84 ~{TRST} (in), 86 X2 (out), 88 X1 (in), 90 XCLKIN (in), 91 GPIO25/ECAP2/EQEP2B/SPISOMIB (io), 92 GPIO28/SCIRXDA/~{TZ5} (io), 95 GPIO13/~{TZ2}/SPISOMIB, 97 TEST1 (io), 98 TEST2 (io), 99 GPIO26/ECAP3/EQEP2I/SPICLKB (io), 100 GPIO32/SDAA/EPWMSYNCI/A~{DCSOCAO} (io)
part B pins: 2 VSS (power), 3 VDDIO (power), 10 VDD (power), 11 VSS (power), 12 VDD1A18 (power), 13 VSS1AGND (power), 14 VSSA2 (power), 15 VDDA2 (power), 25 VSSAIO (power), 26 VDDAIO (power), 39 VSS2AGND (power), 40 VDD2A18 (power), 41 VSS (power), 42 VDD (power), 46 VDDIO (power), 49 VSS (power), 55 VSS (power), 59 VDD (power), 62 VSS (power), 65 VDDIO (power), 68 VDD (power), 69 VSS (power), 77 VSS (power), 82 VDDIO (power), 85 VDD (power), 87 VSS (power), 89 VSS (power), 93 VDD (power), 94 VSS (power), 96 VDD3VFL (power)

## TPS769xx
designator IC?
footprint SOG-5
pins: 1 IN, 2 GND, 3 ~{EN}, 5 OUT

## TPS2811/SO
designator U?
pins: 1 REGIN (in), 2 1IN (in), 3 GND (power) hidden to GND, 4 2IN (in), 5 2OUT (out), 6 VCC (power), 7 1OUT (out), 8 REGOUT (out)

## TPS5430_0
designator IC?
pins: 1 BOOT, 4 VSENSE, 5 ENA, 6 GND, 7 VIN, 8 PH, 9 PWPAD

## tps5430dda
designator U?  SymName: tps5430dda  SlotXofY: SYM 1 OF 1  (hidden comment: *)
RefLocation: ?; BoardLocation: ?; Instance: ?
pins: 1 BOOT (io), 2 NC (io), 3 NC (io), 4 VSENSE (io), 5 ENA (in), 6 GND (io), 7 VIN (in), 8 PH (power)

## tps5430dda_0
designator U?  SymName: tps5430dda  SlotXofY: SYM 1 OF 1  (hidden comment: *)
RefLocation: ?; BoardLocation: ?; Instance: ?
pins: 1 BOOT (io), 2 NC (io), 3 NC (io), 4 VSENSE (io), 5 ENA (in), 6 GND (io), 7 VIN (in), 8 PH (power)

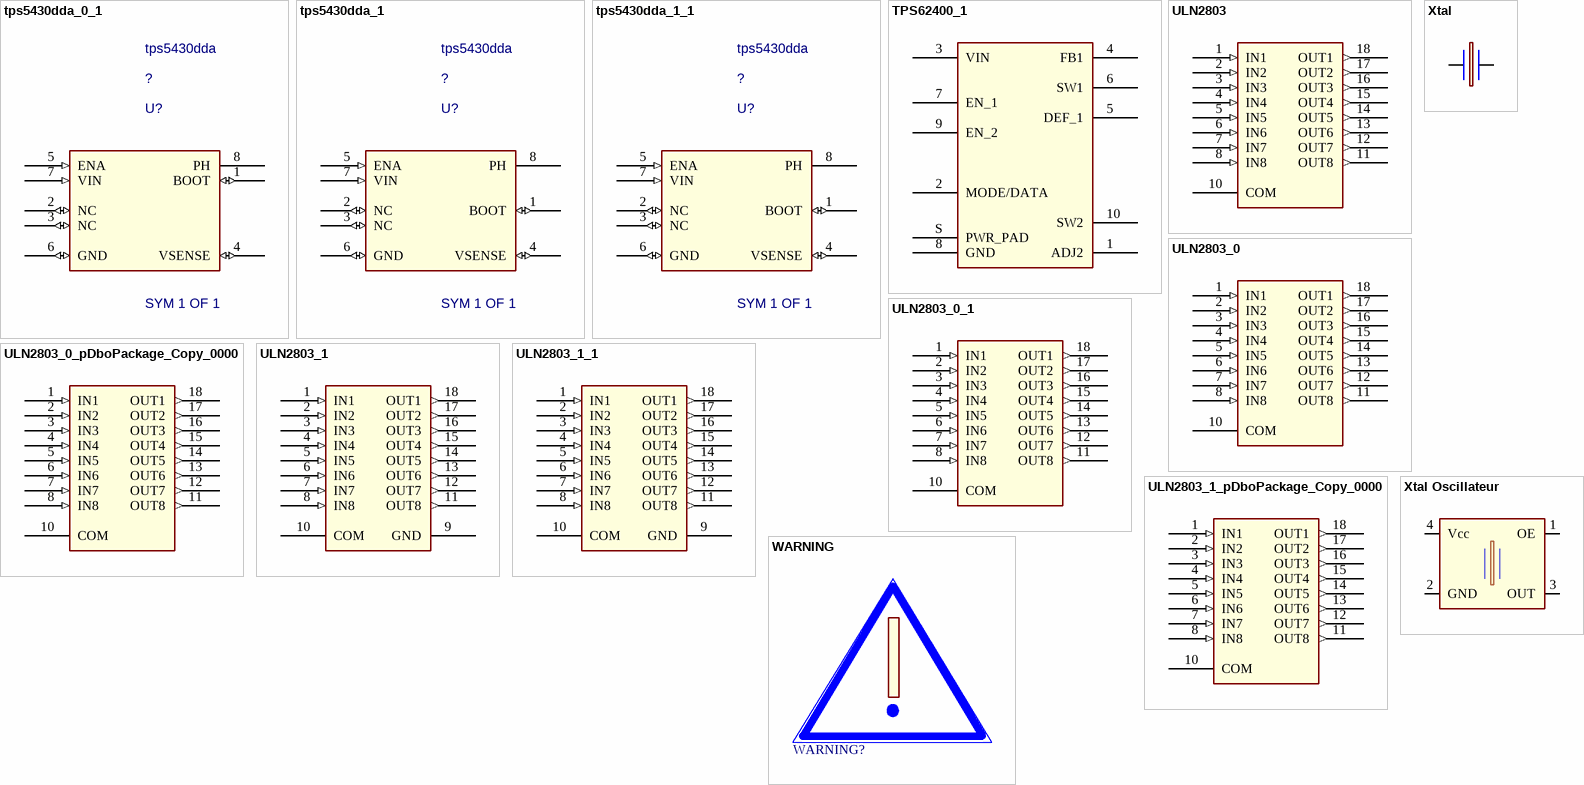
[diagram p11: symbols tps5430dda_0_1 to Xtal Oscillateur]

## tps5430dda_0_1
designator U?  SymName: tps5430dda  SlotXofY: SYM 1 OF 1  (hidden comment: *)
RefLocation: ?; BoardLocation: ?; Instance: ?
pins: 1 BOOT (io), 2 NC (io), 3 NC (io), 4 VSENSE (io), 5 ENA (in), 6 GND (io), 7 VIN (in), 8 PH (power)

## tps5430dda_1
designator U?  SymName: tps5430dda  SlotXofY: SYM 1 OF 1  (hidden comment: *)
RefLocation: ?; BoardLocation: ?; Instance: ?
pins: 1 BOOT (io), 2 NC (io), 3 NC (io), 4 VSENSE (io), 5 ENA (in), 6 GND (io), 7 VIN (in), 8 PH (power)

## tps5430dda_1_1
designator U?  SymName: tps5430dda  SlotXofY: SYM 1 OF 1  (hidden comment: *)
RefLocation: ?; BoardLocation: ?; Instance: ?
pins: 1 BOOT (io), 2 NC (io), 3 NC (io), 4 VSENSE (io), 5 ENA (in), 6 GND (io), 7 VIN (in), 8 PH (power)

## TPS62400_1
designator IC?
pins: 1 ADJ2, 2 MODE/DATA, 3 VIN, 4 FB1, 5 DEF_1, 6 SW1, 7 EN_1, 8 GND, 9 EN_2, 10 SW2, S PWR_PAD

## ULN2803
designator U?
pins: 1 IN1 (in), 2 IN2 (in), 3 IN3 (in), 4 IN4 (in), 5 IN5 (in), 6 IN6 (in), 7 IN7 (in), 8 IN8 (in), 9 GND (power) hidden to GND, 10 COM, 11 OUT8 (out), 12 OUT7 (out), 13 OUT6 (out), 14 OUT5 (out), 15 OUT4 (out), 16 OUT3 (out), 17 OUT2 (out), 18 OUT1 (out)

## ULN2803_0
designator U?
pins: 1 IN1 (in), 2 IN2 (in), 3 IN3 (in), 4 IN4 (in), 5 IN5 (in), 6 IN6 (in), 7 IN7 (in), 8 IN8 (in), 9 GND (power) hidden to GND, 10 COM, 11 OUT8 (out), 12 OUT7 (out), 13 OUT6 (out), 14 OUT5 (out), 15 OUT4 (out), 16 OUT3 (out), 17 OUT2 (out), 18 OUT1 (out)

## ULN2803_0_1
designator U?
pins: 1 IN1 (in), 2 IN2 (in), 3 IN3 (in), 4 IN4 (in), 5 IN5 (in), 6 IN6 (in), 7 IN7 (in), 8 IN8 (in), 9 GND (power) hidden to GND, 10 COM, 11 OUT8 (out), 12 OUT7 (out), 13 OUT6 (out), 14 OUT5 (out), 15 OUT4 (out), 16 OUT3 (out), 17 OUT2 (out), 18 OUT1 (out)

## ULN2803_0_pDboPackage_Copy_0000
designator U?
pins: 1 IN1 (in), 2 IN2 (in), 3 IN3 (in), 4 IN4 (in), 5 IN5 (in), 6 IN6 (in), 7 IN7 (in), 8 IN8 (in), 9 GND (power) hidden to GND, 10 COM, 11 OUT8 (out), 12 OUT7 (out), 13 OUT6 (out), 14 OUT5 (out), 15 OUT4 (out), 16 OUT3 (out), 17 OUT2 (out), 18 OUT1 (out)

## ULN2803_1
designator U?
pins: 1 IN1 (in), 2 IN2 (in), 3 IN3 (in), 4 IN4 (in), 5 IN5 (in), 6 IN6 (in), 7 IN7 (in), 8 IN8 (in), 9 GND (power), 10 COM, 11 OUT8 (out), 12 OUT7 (out), 13 OUT6 (out), 14 OUT5 (out), 15 OUT4 (out), 16 OUT3 (out), 17 OUT2 (out), 18 OUT1 (out)

## ULN2803_1_1
designator U?
pins: 1 IN1 (in), 2 IN2 (in), 3 IN3 (in), 4 IN4 (in), 5 IN5 (in), 6 IN6 (in), 7 IN7 (in), 8 IN8 (in), 9 GND (power), 10 COM, 11 OUT8 (out), 12 OUT7 (out), 13 OUT6 (out), 14 OUT5 (out), 15 OUT4 (out), 16 OUT3 (out), 17 OUT2 (out), 18 OUT1 (out)

## ULN2803_1_pDboPackage_Copy_0000
designator U?
pins: 1 IN1 (in), 2 IN2 (in), 3 IN3 (in), 4 IN4 (in), 5 IN5 (in), 6 IN6 (in), 7 IN7 (in), 8 IN8 (in), 9 GND (power) hidden to GND, 10 COM, 11 OUT8 (out), 12 OUT7 (out), 13 OUT6 (out), 14 OUT5 (out), 15 OUT4 (out), 16 OUT3 (out), 17 OUT2 (out), 18 OUT1 (out)

## WARNING
designator WARNING?  (value not drawn)

## Xtal
designator X?
pins: 1, 2

## Xtal Oscillateur
designator IC?
pins: 1 OE, 2 GND, 3 OUT, 4 Vcc